# Altium schematic symbol library arthurbenemann-Atmel.SchLib: 651 symbols (part 24 of 28)
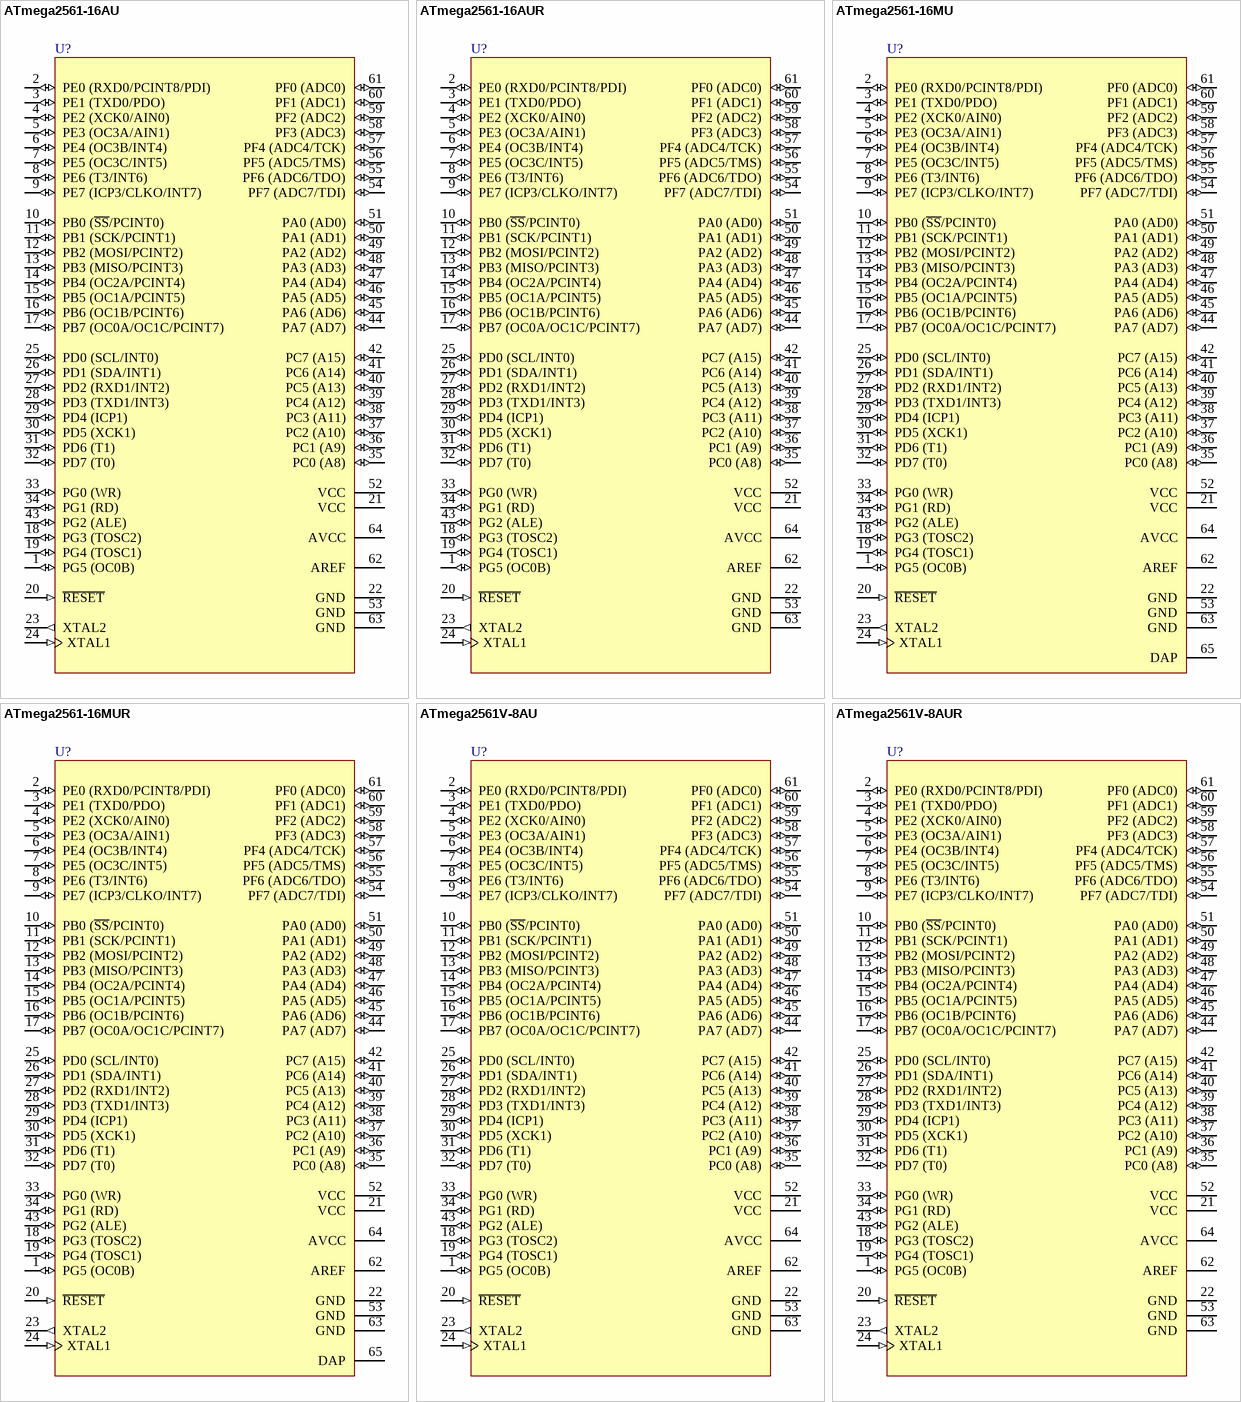
[diagram p109: symbols ATmega2561-16AU to ATmega2561V-8AUR]

## ATmega2561-16AUR
designator U?
8-bit AVR Microcontroller, 4.5-5.5V, 16MHz, 256KB Flash, 4KB EEPROM, 8KB SRAM, 54 GPIO pins, 64-pin TQFP, Industrial Grade (-40°C to 85°C), Pb-Free; DatasheetVersion: revN, May-2011; PackageVersion: revC, Oct-2010; PackageReference: 64A; PackageDescription: 64-Pin Plastic Thin Profile Quad Flat Pack, 14 x 14 x 1.0 mm Body, 0.8 mm Pitch (TQFP); Code_JEDEC: MS-026-AEB; ComponentLink1Description: Manufacturer URL; ComponentLink1URL: http://www.atmel.com/; ComponentLink2Description: ATmega640/1280/1281/2560/2561 Datasheet; ComponentLink2URL: http://www.atmel.com/dyn/resources/prod_documents/doc2549.pdf; ComponentLink3Description: ATmega640/1280/1281/2560/2561 Summary; ComponentLink3URL: http://www.atmel.com/dyn/resources/prod_documents/2549S.pdf
footprint 64A_N (Thin QFP, 64-Leads, Body 14x14mm, Pitch 0.8mm, IPC Medium Density)
footprint 64A_L (Thin QFP, 64-Leads, Body 14x14mm, Pitch 0.8mm, IPC High Density)
footprint 64A_M (Thin QFP, 64-Leads, Body 14x14mm, Pitch 0.8mm, IPC Low Density)
pins: 1 PG5 (OC0B) (io), 2 PE0 (RXD0/PCINT8/PDI) (io), 3 PE1 (TXD0/PDO) (io), 4 PE2 (XCK0/AIN0) (io), 5 PE3 (OC3A/AIN1) (io), 6 PE4 (OC3B/INT4) (io), 7 PE5 (OC3C/INT5) (io), 8 PE6 (T3/INT6) (io), 9 PE7 (ICP3/CLKO/INT7) (io), 10 PB0 (~{SS}/PCINT0) (io), 11 PB1 (SCK/PCINT1) (io), 12 PB2 (MOSI/PCINT2) (io), 13 PB3 (MISO/PCINT3) (io), 14 PB4 (OC2A/PCINT4) (io), 15 PB5 (OC1A/PCINT5) (io), 16 PB6 (OC1B/PCINT6) (io), 17 PB7 (OC0A/OC1C/PCINT7) (io), 18 PG3 (TOSC2) (io), 19 PG4 (TOSC1) (io), 20 ~{RESET} (in), 21 VCC (power), 22 GND (power), 23 XTAL2 (out), 24 XTAL1 (in), 25 PD0 (SCL/INT0) (io), 26 PD1 (SDA/INT1) (io), 27 PD2 (RXD1/INT2) (io), 28 PD3 (TXD1/INT3) (io), 29 PD4 (ICP1) (io), 30 PD5 (XCK1) (io), 31 PD6 (T1) (io), 32 PD7 (T0) (io), 33 PG0 (WR) (io), 34 PG1 (RD) (io), 35 PC0 (A8) (io), 36 PC1 (A9) (io), 37 PC2 (A10) (io), 38 PC3 (A11) (io), 39 PC4 (A12) (io), 40 PC5 (A13) (io), 41 PC6 (A14) (io), 42 PC7 (A15) (io), 43 PG2 (ALE) (io), 44 PA7 (AD7) (io), 45 PA6 (AD6) (io), 46 PA5 (AD5) (io), 47 PA4 (AD4) (io), 48 PA3 (AD3) (io), 49 PA2 (AD2) (io), 50 PA1 (AD1) (io), 51 PA0 (AD0) (io), 52 VCC (power), 53 GND (power), 54 PF7 (ADC7/TDI) (io), 55 PF6 (ADC6/TDO) (io), 56 PF5 (ADC5/TMS) (io), 57 PF4 (ADC4/TCK) (io), 58 PF3 (ADC3) (io), 59 PF2 (ADC2) (io), 60 PF1 (ADC1) (io), 61 PF0 (ADC0) (io), 62 AREF (power), 63 GND (power), 64 AVCC (power)

## ATmega2561-16MU
designator U?
8-bit AVR Microcontroller, 4.5-5.5V, 16MHz, 256KB Flash, 4KB EEPROM, 8KB SRAM, 54 GPIO pins, 64-pin MLF, Industrial Grade (-40°C to 85°C), Pb-Free, Reel; DatasheetVersion: revN, May-2011; PackageVersion: revE, Oct-2010; PackageReference: 64M2; PackageDescription: 64-Pin Micro Lead Frame Package (MLF), 9 x 9 x 1.0 mm Body, 0.5 mm Pitch, 7.65 mm Exposed Pad; Code_JEDEC: MO-220VMMD; ComponentLink1Description: Manufacturer URL; ComponentLink1URL: http://www.atmel.com/; ComponentLink2Description: ATmega640/1280/1281/2560/2561 Datasheet; ComponentLink2URL: http://www.atmel.com/dyn/resources/prod_documents/doc2549.pdf; ComponentLink3Description: ATmega640/1280/1281/2560/2561 Summary; ComponentLink3URL: http://www.atmel.com/dyn/resources/prod_documents/2549S.pdf
footprint 64M2_N (QFN, 64-Leads, Body 9x9mm, Pitch 0.5mm, Thermal Pad 7.8x7.8mm, IPC Medium Density)
footprint 64M2_L (QFN, 64-Leads, Body 9x9mm, Pitch 0.5mm, Thermal Pad 7.8x7.8mm, IPC High Density)
footprint 64M2_M (QFN, 64-Leads, Body 9x9mm, Pitch 0.5mm, Thermal Pad 7.8x7.8mm, IPC Low Density)
pins: 1 PG5 (OC0B) (io), 2 PE0 (RXD0/PCINT8/PDI) (io), 3 PE1 (TXD0/PDO) (io), 4 PE2 (XCK0/AIN0) (io), 5 PE3 (OC3A/AIN1) (io), 6 PE4 (OC3B/INT4) (io), 7 PE5 (OC3C/INT5) (io), 8 PE6 (T3/INT6) (io), 9 PE7 (ICP3/CLKO/INT7) (io), 10 PB0 (~{SS}/PCINT0) (io), 11 PB1 (SCK/PCINT1) (io), 12 PB2 (MOSI/PCINT2) (io), 13 PB3 (MISO/PCINT3) (io), 14 PB4 (OC2A/PCINT4) (io), 15 PB5 (OC1A/PCINT5) (io), 16 PB6 (OC1B/PCINT6) (io), 17 PB7 (OC0A/OC1C/PCINT7) (io), 18 PG3 (TOSC2) (io), 19 PG4 (TOSC1) (io), 20 ~{RESET} (in), 21 VCC (power), 22 GND (power), 23 XTAL2 (out), 24 XTAL1 (in), 25 PD0 (SCL/INT0) (io), 26 PD1 (SDA/INT1) (io), 27 PD2 (RXD1/INT2) (io), 28 PD3 (TXD1/INT3) (io), 29 PD4 (ICP1) (io), 30 PD5 (XCK1) (io), 31 PD6 (T1) (io), 32 PD7 (T0) (io), 33 PG0 (WR) (io), 34 PG1 (RD) (io), 35 PC0 (A8) (io), 36 PC1 (A9) (io), 37 PC2 (A10) (io), 38 PC3 (A11) (io), 39 PC4 (A12) (io), 40 PC5 (A13) (io), 41 PC6 (A14) (io), 42 PC7 (A15) (io), 43 PG2 (ALE) (io), 44 PA7 (AD7) (io), 45 PA6 (AD6) (io), 46 PA5 (AD5) (io), 47 PA4 (AD4) (io), 48 PA3 (AD3) (io), 49 PA2 (AD2) (io), 50 PA1 (AD1) (io), 51 PA0 (AD0) (io), 52 VCC (power), 53 GND (power), 54 PF7 (ADC7/TDI) (io), 55 PF6 (ADC6/TDO) (io), 56 PF5 (ADC5/TMS) (io), 57 PF4 (ADC4/TCK) (io), 58 PF3 (ADC3) (io), 59 PF2 (ADC2) (io), 60 PF1 (ADC1) (io), 61 PF0 (ADC0) (io), 62 AREF (power), 63 GND (power), 64 AVCC (power), 65 DAP (power)

## ATmega2561-16MUR
designator U?
8-bit AVR Microcontroller, 4.5-5.5V, 16MHz, 256KB Flash, 4KB EEPROM, 8KB SRAM, 54 GPIO pins, 64-pin MLF, Industrial Grade (-40°C to 85°C), Pb-Free, Reel; DatasheetVersion: revN, May-2011; PackageVersion: revE, Oct-2010; PackageReference: 64M2; PackageDescription: 64-Pin Micro Lead Frame Package (MLF), 9 x 9 x 1.0 mm Body, 0.5 mm Pitch, 7.65 mm Exposed Pad; Code_JEDEC: MO-220VMMD; ComponentLink1Description: Manufacturer URL; ComponentLink1URL: http://www.atmel.com/; ComponentLink2Description: ATmega640/1280/1281/2560/2561 Datasheet; ComponentLink2URL: http://www.atmel.com/dyn/resources/prod_documents/doc2549.pdf; ComponentLink3Description: ATmega640/1280/1281/2560/2561 Summary; ComponentLink3URL: http://www.atmel.com/dyn/resources/prod_documents/2549S.pdf
footprint 64M2_N (QFN, 64-Leads, Body 9x9mm, Pitch 0.5mm, Thermal Pad 7.8x7.8mm, IPC Medium Density)
footprint 64M2_L (QFN, 64-Leads, Body 9x9mm, Pitch 0.5mm, Thermal Pad 7.8x7.8mm, IPC High Density)
footprint 64M2_M (QFN, 64-Leads, Body 9x9mm, Pitch 0.5mm, Thermal Pad 7.8x7.8mm, IPC Low Density)
pins: 1 PG5 (OC0B) (io), 2 PE0 (RXD0/PCINT8/PDI) (io), 3 PE1 (TXD0/PDO) (io), 4 PE2 (XCK0/AIN0) (io), 5 PE3 (OC3A/AIN1) (io), 6 PE4 (OC3B/INT4) (io), 7 PE5 (OC3C/INT5) (io), 8 PE6 (T3/INT6) (io), 9 PE7 (ICP3/CLKO/INT7) (io), 10 PB0 (~{SS}/PCINT0) (io), 11 PB1 (SCK/PCINT1) (io), 12 PB2 (MOSI/PCINT2) (io), 13 PB3 (MISO/PCINT3) (io), 14 PB4 (OC2A/PCINT4) (io), 15 PB5 (OC1A/PCINT5) (io), 16 PB6 (OC1B/PCINT6) (io), 17 PB7 (OC0A/OC1C/PCINT7) (io), 18 PG3 (TOSC2) (io), 19 PG4 (TOSC1) (io), 20 ~{RESET} (in), 21 VCC (power), 22 GND (power), 23 XTAL2 (out), 24 XTAL1 (in), 25 PD0 (SCL/INT0) (io), 26 PD1 (SDA/INT1) (io), 27 PD2 (RXD1/INT2) (io), 28 PD3 (TXD1/INT3) (io), 29 PD4 (ICP1) (io), 30 PD5 (XCK1) (io), 31 PD6 (T1) (io), 32 PD7 (T0) (io), 33 PG0 (WR) (io), 34 PG1 (RD) (io), 35 PC0 (A8) (io), 36 PC1 (A9) (io), 37 PC2 (A10) (io), 38 PC3 (A11) (io), 39 PC4 (A12) (io), 40 PC5 (A13) (io), 41 PC6 (A14) (io), 42 PC7 (A15) (io), 43 PG2 (ALE) (io), 44 PA7 (AD7) (io), 45 PA6 (AD6) (io), 46 PA5 (AD5) (io), 47 PA4 (AD4) (io), 48 PA3 (AD3) (io), 49 PA2 (AD2) (io), 50 PA1 (AD1) (io), 51 PA0 (AD0) (io), 52 VCC (power), 53 GND (power), 54 PF7 (ADC7/TDI) (io), 55 PF6 (ADC6/TDO) (io), 56 PF5 (ADC5/TMS) (io), 57 PF4 (ADC4/TCK) (io), 58 PF3 (ADC3) (io), 59 PF2 (ADC2) (io), 60 PF1 (ADC1) (io), 61 PF0 (ADC0) (io), 62 AREF (power), 63 GND (power), 64 AVCC (power), 65 DAP (power)

## ATmega2561V-8AU
designator U?
8-bit AVR Microcontroller, 1.8-5.5V, 2MHz, 256KB Flash, 4KB EEPROM, 8KB SRAM, 54 GPIO pins, 64-pin TQFP, Industrial Grade (-40°C to 85°C), Pb-Free; DatasheetVersion: revN, May-2011; PackageVersion: revC, Oct-2010; PackageReference: 64A; PackageDescription: 64-Pin Plastic Thin Profile Quad Flat Pack, 14 x 14 x 1.0 mm Body, 0.8 mm Pitch (TQFP); Code_JEDEC: MS-026-AEB; ComponentLink1Description: Manufacturer URL; ComponentLink1URL: http://www.atmel.com/; ComponentLink2Description: ATmega640/1280/1281/2560/2561 Datasheet; ComponentLink2URL: http://www.atmel.com/dyn/resources/prod_documents/doc2549.pdf; ComponentLink3Description: ATmega640/1280/1281/2560/2561 Summary; ComponentLink3URL: http://www.atmel.com/dyn/resources/prod_documents/2549S.pdf
footprint 64A_N (Thin QFP, 64-Leads, Body 14x14mm, Pitch 0.8mm, IPC Medium Density)
footprint 64A_L (Thin QFP, 64-Leads, Body 14x14mm, Pitch 0.8mm, IPC High Density)
footprint 64A_M (Thin QFP, 64-Leads, Body 14x14mm, Pitch 0.8mm, IPC Low Density)
pins: 1 PG5 (OC0B) (io), 2 PE0 (RXD0/PCINT8/PDI) (io), 3 PE1 (TXD0/PDO) (io), 4 PE2 (XCK0/AIN0) (io), 5 PE3 (OC3A/AIN1) (io), 6 PE4 (OC3B/INT4) (io), 7 PE5 (OC3C/INT5) (io), 8 PE6 (T3/INT6) (io), 9 PE7 (ICP3/CLKO/INT7) (io), 10 PB0 (~{SS}/PCINT0) (io), 11 PB1 (SCK/PCINT1) (io), 12 PB2 (MOSI/PCINT2) (io), 13 PB3 (MISO/PCINT3) (io), 14 PB4 (OC2A/PCINT4) (io), 15 PB5 (OC1A/PCINT5) (io), 16 PB6 (OC1B/PCINT6) (io), 17 PB7 (OC0A/OC1C/PCINT7) (io), 18 PG3 (TOSC2) (io), 19 PG4 (TOSC1) (io), 20 ~{RESET} (in), 21 VCC (power), 22 GND (power), 23 XTAL2 (out), 24 XTAL1 (in), 25 PD0 (SCL/INT0) (io), 26 PD1 (SDA/INT1) (io), 27 PD2 (RXD1/INT2) (io), 28 PD3 (TXD1/INT3) (io), 29 PD4 (ICP1) (io), 30 PD5 (XCK1) (io), 31 PD6 (T1) (io), 32 PD7 (T0) (io), 33 PG0 (WR) (io), 34 PG1 (RD) (io), 35 PC0 (A8) (io), 36 PC1 (A9) (io), 37 PC2 (A10) (io), 38 PC3 (A11) (io), 39 PC4 (A12) (io), 40 PC5 (A13) (io), 41 PC6 (A14) (io), 42 PC7 (A15) (io), 43 PG2 (ALE) (io), 44 PA7 (AD7) (io), 45 PA6 (AD6) (io), 46 PA5 (AD5) (io), 47 PA4 (AD4) (io), 48 PA3 (AD3) (io), 49 PA2 (AD2) (io), 50 PA1 (AD1) (io), 51 PA0 (AD0) (io), 52 VCC (power), 53 GND (power), 54 PF7 (ADC7/TDI) (io), 55 PF6 (ADC6/TDO) (io), 56 PF5 (ADC5/TMS) (io), 57 PF4 (ADC4/TCK) (io), 58 PF3 (ADC3) (io), 59 PF2 (ADC2) (io), 60 PF1 (ADC1) (io), 61 PF0 (ADC0) (io), 62 AREF (power), 63 GND (power), 64 AVCC (power)

## ATmega2561V-8AUR
designator U?
8-bit AVR Microcontroller, 1.8-5.5V, 2MHz, 256KB Flash, 4KB EEPROM, 8KB SRAM, 54 GPIO pins, 64-pin TQFP, Industrial Grade (-40°C to 85°C), Pb-Free; DatasheetVersion: revN, May-2011; PackageVersion: revC, Oct-2010; PackageReference: 64A; PackageDescription: 64-Pin Plastic Thin Profile Quad Flat Pack, 14 x 14 x 1.0 mm Body, 0.8 mm Pitch (TQFP); Code_JEDEC: MS-026-AEB; ComponentLink1Description: Manufacturer URL; ComponentLink1URL: http://www.atmel.com/; ComponentLink2Description: ATmega640/1280/1281/2560/2561 Datasheet; ComponentLink2URL: http://www.atmel.com/dyn/resources/prod_documents/doc2549.pdf; ComponentLink3Description: ATmega640/1280/1281/2560/2561 Summary; ComponentLink3URL: http://www.atmel.com/dyn/resources/prod_documents/2549S.pdf
footprint 64A_N (Thin QFP, 64-Leads, Body 14x14mm, Pitch 0.8mm, IPC Medium Density)
footprint 64A_L (Thin QFP, 64-Leads, Body 14x14mm, Pitch 0.8mm, IPC High Density)
footprint 64A_M (Thin QFP, 64-Leads, Body 14x14mm, Pitch 0.8mm, IPC Low Density)
pins: 1 PG5 (OC0B) (io), 2 PE0 (RXD0/PCINT8/PDI) (io), 3 PE1 (TXD0/PDO) (io), 4 PE2 (XCK0/AIN0) (io), 5 PE3 (OC3A/AIN1) (io), 6 PE4 (OC3B/INT4) (io), 7 PE5 (OC3C/INT5) (io), 8 PE6 (T3/INT6) (io), 9 PE7 (ICP3/CLKO/INT7) (io), 10 PB0 (~{SS}/PCINT0) (io), 11 PB1 (SCK/PCINT1) (io), 12 PB2 (MOSI/PCINT2) (io), 13 PB3 (MISO/PCINT3) (io), 14 PB4 (OC2A/PCINT4) (io), 15 PB5 (OC1A/PCINT5) (io), 16 PB6 (OC1B/PCINT6) (io), 17 PB7 (OC0A/OC1C/PCINT7) (io), 18 PG3 (TOSC2) (io), 19 PG4 (TOSC1) (io), 20 ~{RESET} (in), 21 VCC (power), 22 GND (power), 23 XTAL2 (out), 24 XTAL1 (in), 25 PD0 (SCL/INT0) (io), 26 PD1 (SDA/INT1) (io), 27 PD2 (RXD1/INT2) (io), 28 PD3 (TXD1/INT3) (io), 29 PD4 (ICP1) (io), 30 PD5 (XCK1) (io), 31 PD6 (T1) (io), 32 PD7 (T0) (io), 33 PG0 (WR) (io), 34 PG1 (RD) (io), 35 PC0 (A8) (io), 36 PC1 (A9) (io), 37 PC2 (A10) (io), 38 PC3 (A11) (io), 39 PC4 (A12) (io), 40 PC5 (A13) (io), 41 PC6 (A14) (io), 42 PC7 (A15) (io), 43 PG2 (ALE) (io), 44 PA7 (AD7) (io), 45 PA6 (AD6) (io), 46 PA5 (AD5) (io), 47 PA4 (AD4) (io), 48 PA3 (AD3) (io), 49 PA2 (AD2) (io), 50 PA1 (AD1) (io), 51 PA0 (AD0) (io), 52 VCC (power), 53 GND (power), 54 PF7 (ADC7/TDI) (io), 55 PF6 (ADC6/TDO) (io), 56 PF5 (ADC5/TMS) (io), 57 PF4 (ADC4/TCK) (io), 58 PF3 (ADC3) (io), 59 PF2 (ADC2) (io), 60 PF1 (ADC1) (io), 61 PF0 (ADC0) (io), 62 AREF (power), 63 GND (power), 64 AVCC (power)

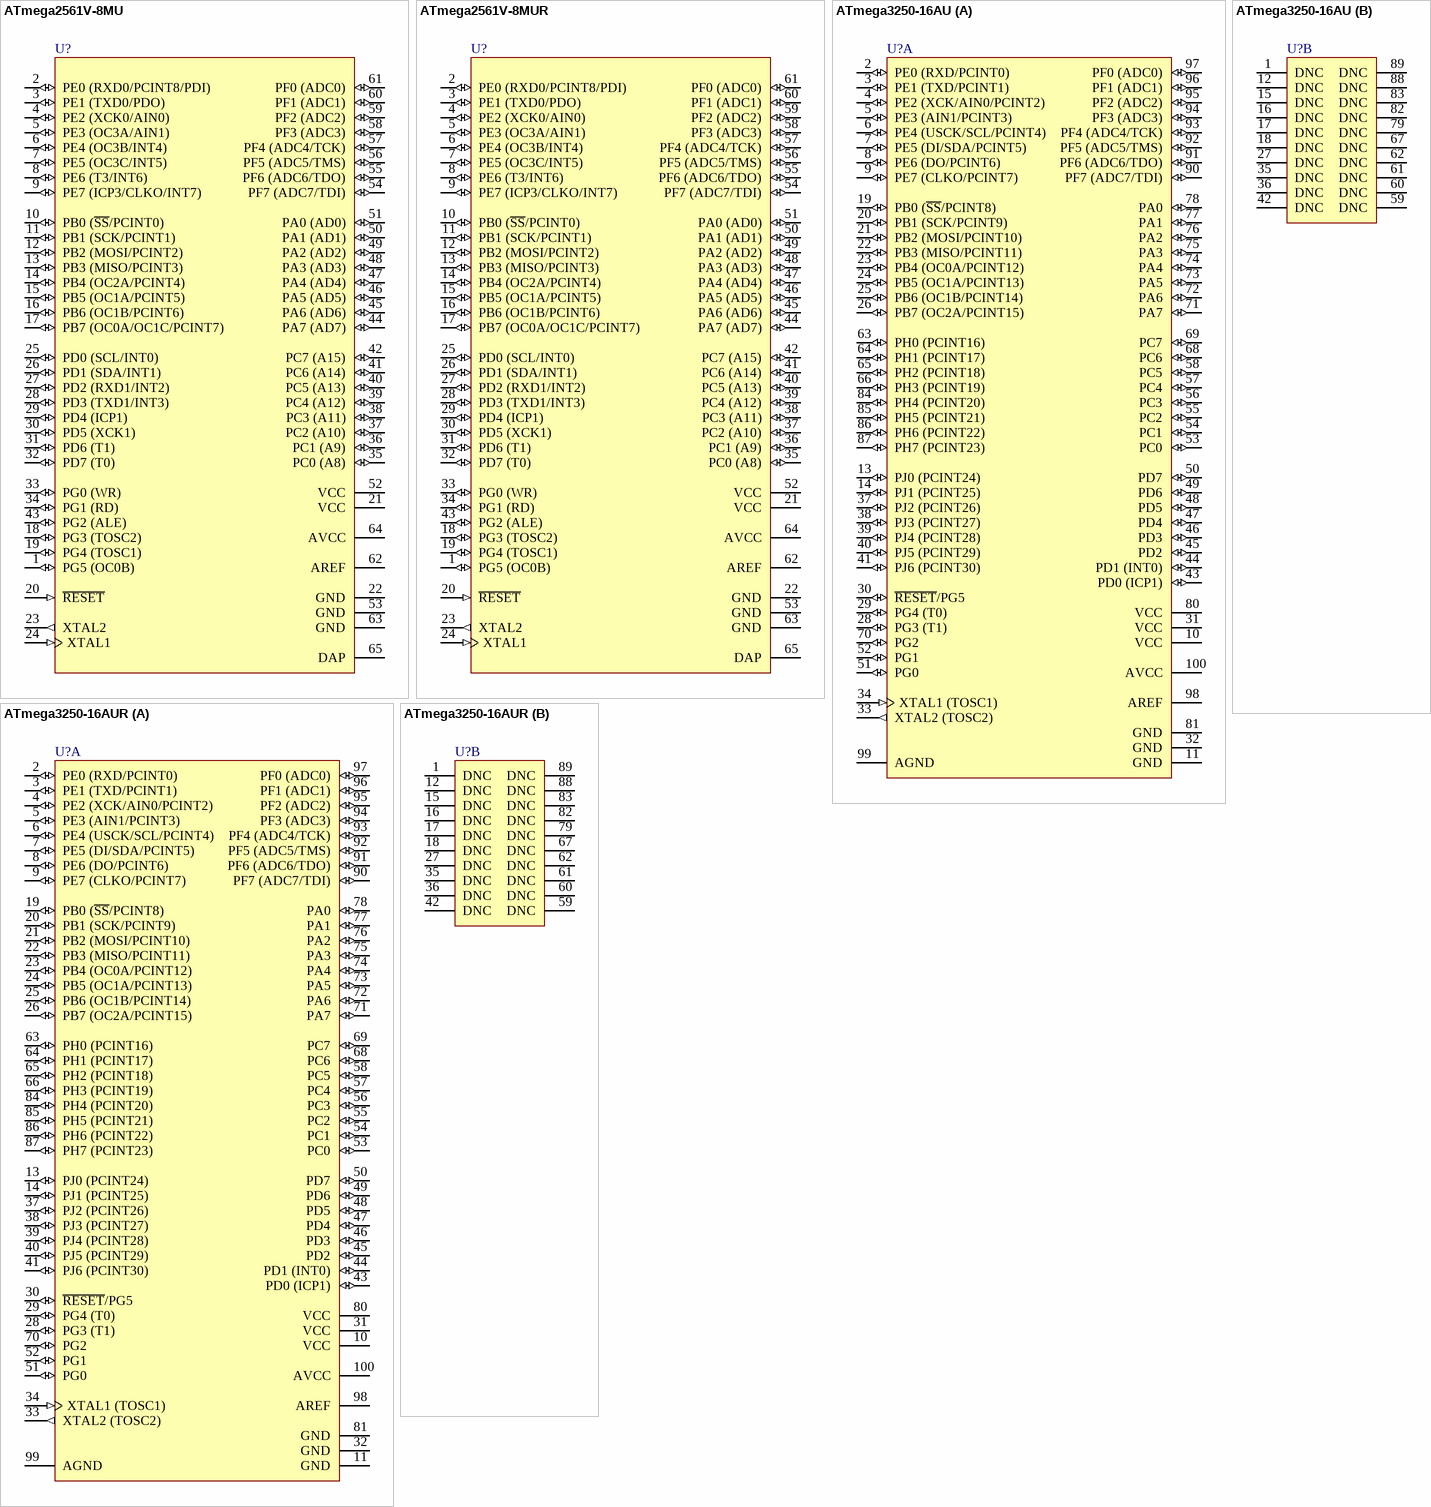
[diagram p68: symbols ATmega2561V-8MU to ATmega3250-16AUR]

## ATmega2561V-8MU
designator U?
8-bit AVR Microcontroller, 1.8-5.5V, 2MHz, 256KB Flash, 4KB EEPROM, 8KB SRAM, 54 GPIO pins, 64-pin MLF, Industrial Grade (-40°C to 85°C), Pb-Free, Reel; DatasheetVersion: revN, May-2011; PackageVersion: revE, Oct-2010; PackageReference: 64M2; PackageDescription: 64-Pin Micro Lead Frame Package (MLF), 9 x 9 x 1.0 mm Body, 0.5 mm Pitch, 7.65 mm Exposed Pad; Code_JEDEC: MO-220VMMD; ComponentLink1Description: Manufacturer URL; ComponentLink1URL: http://www.atmel.com/; ComponentLink2Description: ATmega640/1280/1281/2560/2561 Datasheet; ComponentLink2URL: http://www.atmel.com/dyn/resources/prod_documents/doc2549.pdf; ComponentLink3Description: ATmega640/1280/1281/2560/2561 Summary; ComponentLink3URL: http://www.atmel.com/dyn/resources/prod_documents/2549S.pdf
footprint 64M2_N (QFN, 64-Leads, Body 9x9mm, Pitch 0.5mm, Thermal Pad 7.8x7.8mm, IPC Medium Density)
footprint 64M2_L (QFN, 64-Leads, Body 9x9mm, Pitch 0.5mm, Thermal Pad 7.8x7.8mm, IPC High Density)
footprint 64M2_M (QFN, 64-Leads, Body 9x9mm, Pitch 0.5mm, Thermal Pad 7.8x7.8mm, IPC Low Density)
pins: 1 PG5 (OC0B) (io), 2 PE0 (RXD0/PCINT8/PDI) (io), 3 PE1 (TXD0/PDO) (io), 4 PE2 (XCK0/AIN0) (io), 5 PE3 (OC3A/AIN1) (io), 6 PE4 (OC3B/INT4) (io), 7 PE5 (OC3C/INT5) (io), 8 PE6 (T3/INT6) (io), 9 PE7 (ICP3/CLKO/INT7) (io), 10 PB0 (~{SS}/PCINT0) (io), 11 PB1 (SCK/PCINT1) (io), 12 PB2 (MOSI/PCINT2) (io), 13 PB3 (MISO/PCINT3) (io), 14 PB4 (OC2A/PCINT4) (io), 15 PB5 (OC1A/PCINT5) (io), 16 PB6 (OC1B/PCINT6) (io), 17 PB7 (OC0A/OC1C/PCINT7) (io), 18 PG3 (TOSC2) (io), 19 PG4 (TOSC1) (io), 20 ~{RESET} (in), 21 VCC (power), 22 GND (power), 23 XTAL2 (out), 24 XTAL1 (in), 25 PD0 (SCL/INT0) (io), 26 PD1 (SDA/INT1) (io), 27 PD2 (RXD1/INT2) (io), 28 PD3 (TXD1/INT3) (io), 29 PD4 (ICP1) (io), 30 PD5 (XCK1) (io), 31 PD6 (T1) (io), 32 PD7 (T0) (io), 33 PG0 (WR) (io), 34 PG1 (RD) (io), 35 PC0 (A8) (io), 36 PC1 (A9) (io), 37 PC2 (A10) (io), 38 PC3 (A11) (io), 39 PC4 (A12) (io), 40 PC5 (A13) (io), 41 PC6 (A14) (io), 42 PC7 (A15) (io), 43 PG2 (ALE) (io), 44 PA7 (AD7) (io), 45 PA6 (AD6) (io), 46 PA5 (AD5) (io), 47 PA4 (AD4) (io), 48 PA3 (AD3) (io), 49 PA2 (AD2) (io), 50 PA1 (AD1) (io), 51 PA0 (AD0) (io), 52 VCC (power), 53 GND (power), 54 PF7 (ADC7/TDI) (io), 55 PF6 (ADC6/TDO) (io), 56 PF5 (ADC5/TMS) (io), 57 PF4 (ADC4/TCK) (io), 58 PF3 (ADC3) (io), 59 PF2 (ADC2) (io), 60 PF1 (ADC1) (io), 61 PF0 (ADC0) (io), 62 AREF (power), 63 GND (power), 64 AVCC (power), 65 DAP (power)

## ATmega2561V-8MUR
designator U?
8-bit AVR Microcontroller, 1.8-5.5V, 2MHz, 256KB Flash, 4KB EEPROM, 8KB SRAM, 54 GPIO pins, 64-pin MLF, Industrial Grade (-40°C to 85°C), Pb-Free, Reel; DatasheetVersion: revN, May-2011; PackageVersion: revE, Oct-2010; PackageReference: 64M2; PackageDescription: 64-Pin Micro Lead Frame Package (MLF), 9 x 9 x 1.0 mm Body, 0.5 mm Pitch, 7.65 mm Exposed Pad; Code_JEDEC: MO-220VMMD; ComponentLink1Description: Manufacturer URL; ComponentLink1URL: http://www.atmel.com/; ComponentLink2Description: ATmega640/1280/1281/2560/2561 Datasheet; ComponentLink2URL: http://www.atmel.com/dyn/resources/prod_documents/doc2549.pdf; ComponentLink3Description: ATmega640/1280/1281/2560/2561 Summary; ComponentLink3URL: http://www.atmel.com/dyn/resources/prod_documents/2549S.pdf
footprint 64M2_N (QFN, 64-Leads, Body 9x9mm, Pitch 0.5mm, Thermal Pad 7.8x7.8mm, IPC Medium Density)
footprint 64M2_L (QFN, 64-Leads, Body 9x9mm, Pitch 0.5mm, Thermal Pad 7.8x7.8mm, IPC High Density)
footprint 64M2_M (QFN, 64-Leads, Body 9x9mm, Pitch 0.5mm, Thermal Pad 7.8x7.8mm, IPC Low Density)
pins: 1 PG5 (OC0B) (io), 2 PE0 (RXD0/PCINT8/PDI) (io), 3 PE1 (TXD0/PDO) (io), 4 PE2 (XCK0/AIN0) (io), 5 PE3 (OC3A/AIN1) (io), 6 PE4 (OC3B/INT4) (io), 7 PE5 (OC3C/INT5) (io), 8 PE6 (T3/INT6) (io), 9 PE7 (ICP3/CLKO/INT7) (io), 10 PB0 (~{SS}/PCINT0) (io), 11 PB1 (SCK/PCINT1) (io), 12 PB2 (MOSI/PCINT2) (io), 13 PB3 (MISO/PCINT3) (io), 14 PB4 (OC2A/PCINT4) (io), 15 PB5 (OC1A/PCINT5) (io), 16 PB6 (OC1B/PCINT6) (io), 17 PB7 (OC0A/OC1C/PCINT7) (io), 18 PG3 (TOSC2) (io), 19 PG4 (TOSC1) (io), 20 ~{RESET} (in), 21 VCC (power), 22 GND (power), 23 XTAL2 (out), 24 XTAL1 (in), 25 PD0 (SCL/INT0) (io), 26 PD1 (SDA/INT1) (io), 27 PD2 (RXD1/INT2) (io), 28 PD3 (TXD1/INT3) (io), 29 PD4 (ICP1) (io), 30 PD5 (XCK1) (io), 31 PD6 (T1) (io), 32 PD7 (T0) (io), 33 PG0 (WR) (io), 34 PG1 (RD) (io), 35 PC0 (A8) (io), 36 PC1 (A9) (io), 37 PC2 (A10) (io), 38 PC3 (A11) (io), 39 PC4 (A12) (io), 40 PC5 (A13) (io), 41 PC6 (A14) (io), 42 PC7 (A15) (io), 43 PG2 (ALE) (io), 44 PA7 (AD7) (io), 45 PA6 (AD6) (io), 46 PA5 (AD5) (io), 47 PA4 (AD4) (io), 48 PA3 (AD3) (io), 49 PA2 (AD2) (io), 50 PA1 (AD1) (io), 51 PA0 (AD0) (io), 52 VCC (power), 53 GND (power), 54 PF7 (ADC7/TDI) (io), 55 PF6 (ADC6/TDO) (io), 56 PF5 (ADC5/TMS) (io), 57 PF4 (ADC4/TCK) (io), 58 PF3 (ADC3) (io), 59 PF2 (ADC2) (io), 60 PF1 (ADC1) (io), 61 PF0 (ADC0) (io), 62 AREF (power), 63 GND (power), 64 AVCC (power), 65 DAP (power)

## ATmega3250-16AU
designator U?
8-bit AVR Microcontroller, 2.7-5.5V, 32KB Flash, 1KB EEPROM, 2KB SRAM, 100-pin TQFP, Industrial Grade (-40°C to 85°C); DatasheetVersion: revN, May-2011; PackageVersion: revD, Oct-2010; PackageReference: 100A; PackageDescription: 100-Pin Thin Profile Plastic Quad Flat Pack (TQFP), 14 x 14 x 1.0 mm Body, 0.5 mm Pitch; Code_JEDEC: MS-026-AED; ComponentLink1Description: Manufacturer URL; ComponentLink1URL: http://www.atmel.com/; ComponentLink2Description: ATmega325/3250/645/6450 Datasheet; ComponentLink2URL: http://www.atmel.com/dyn/resources/prod_documents/doc2570.pdf; ComponentLink3Description: ATmega325/3250/645/6540 Summary; ComponentLink3URL: http://www.atmel.com/dyn/resources/prod_documents/2570S.pdf
footprint 100A_N (Thin QFP, 100-Leads, Body 14x14mm, Pitch 0.5mm, IPC Medium Density)
footprint 100A_L (Thin QFP, 100-Leads, Body 14x14mm, Pitch 0.5mm, IPC High Density)
footprint 100A_M (Thin QFP, 100-Leads, Body 14x14mm, Pitch 0.5mm, IPC Low Density)
part A pins: 2 PE0 (RXD/PCINT0) (io), 3 PE1 (TXD/PCINT1) (io), 4 PE2 (XCK/AIN0/PCINT2) (io), 5 PE3 (AIN1/PCINT3) (io), 6 PE4 (USCK/SCL/PCINT4) (io), 7 PE5 (DI/SDA/PCINT5) (io), 8 PE6 (DO/PCINT6) (io), 9 PE7 (CLKO/PCINT7) (io), 10 VCC (power), 11 GND (power), 13 PJ0 (PCINT24) (io), 14 PJ1 (PCINT25) (io), 19 PB0 (~{SS}/PCINT8) (io), 20 PB1 (SCK/PCINT9) (io), 21 PB2 (MOSI/PCINT10) (io), 22 PB3 (MISO/PCINT11) (io), 23 PB4 (OC0A/PCINT12) (io), 24 PB5 (OC1A/PCINT13) (io), 25 PB6 (OC1B/PCINT14) (io), 26 PB7 (OC2A/PCINT15) (io), 28 PG3 (T1) (io), 29 PG4 (T0) (io), 30 ~{RESET}/PG5 (io), 31 VCC (power), 32 GND (power), 33 XTAL2 (TOSC2) (out), 34 XTAL1 (TOSC1) (in), 37 PJ2 (PCINT26) (io), 38 PJ3 (PCINT27) (io), 39 PJ4 (PCINT28) (io), 40 PJ5 (PCINT29) (io), 41 PJ6 (PCINT30) (io), 43 PD0 (ICP1) (io), 44 PD1 (INT0) (io), 45 PD2 (io), 46 PD3 (io), 47 PD4 (io), 48 PD5 (io), 49 PD6 (io), 50 PD7 (io), 51 PG0 (io), 52 PG1 (io), 53 PC0 (io), 54 PC1 (io), 55 PC2 (io), 56 PC3 (io), 57 PC4 (io), 58 PC5 (io), 63 PH0 (PCINT16) (io), 64 PH1 (PCINT17) (io), 65 PH2 (PCINT18) (io), 66 PH3 (PCINT19) (io), 68 PC6 (io), 69 PC7 (io), 70 PG2 (io), 71 PA7 (io), 72 PA6 (io), 73 PA5 (io), 74 PA4 (io), 75 PA3 (io), 76 PA2 (io), 77 PA1 (io), 78 PA0 (io), 80 VCC (power), 81 GND (power), 84 PH4 (PCINT20) (io), 85 PH5 (PCINT21) (io), 86 PH6 (PCINT22) (io), 87 PH7 (PCINT23) (io), 90 PF7 (ADC7/TDI) (io), 91 PF6 (ADC6/TDO) (io), 92 PF5 (ADC5/TMS) (io), 93 PF4 (ADC4/TCK) (io), 94 PF3 (ADC3) (io), 95 PF2 (ADC2) (io), 96 PF1 (ADC1) (io), 97 PF0 (ADC0) (io), 98 AREF (power), 99 AGND (power), 100 AVCC (power)
part B pins: 1 DNC, 12 DNC, 15 DNC, 16 DNC, 17 DNC, 18 DNC, 27 DNC, 35 DNC, 36 DNC, 42 DNC, 59 DNC, 60 DNC, 61 DNC, 62 DNC, 67 DNC, 79 DNC, 82 DNC, 83 DNC, 88 DNC, 89 DNC

## ATmega3250-16AUR
designator U?
8-bit AVR Microcontroller, 2.7-5.5V, 32KB Flash, 1KB EEPROM, 2KB SRAM, 100-pin TQFP, Industrial Grade (-40°C to 85°C); DatasheetVersion: revN, May-2011; PackageVersion: revD, Oct-2010; PackageReference: 100A; PackageDescription: 100-Pin Thin Profile Plastic Quad Flat Pack (TQFP), 14 x 14 x 1.0 mm Body, 0.5 mm Pitch; Code_JEDEC: MS-026-AED; ComponentLink1Description: Manufacturer URL; ComponentLink1URL: http://www.atmel.com/; ComponentLink2Description: ATmega325/3250/645/6450 Datasheet; ComponentLink2URL: http://www.atmel.com/dyn/resources/prod_documents/doc2570.pdf; ComponentLink3Description: ATmega325/3250/645/6540 Summary; ComponentLink3URL: http://www.atmel.com/dyn/resources/prod_documents/2570S.pdf
footprint 100A_N (Thin QFP, 100-Leads, Body 14x14mm, Pitch 0.5mm, IPC Medium Density)
footprint 100A_L (Thin QFP, 100-Leads, Body 14x14mm, Pitch 0.5mm, IPC High Density)
footprint 100A_M (Thin QFP, 100-Leads, Body 14x14mm, Pitch 0.5mm, IPC Low Density)
part A pins: 2 PE0 (RXD/PCINT0) (io), 3 PE1 (TXD/PCINT1) (io), 4 PE2 (XCK/AIN0/PCINT2) (io), 5 PE3 (AIN1/PCINT3) (io), 6 PE4 (USCK/SCL/PCINT4) (io), 7 PE5 (DI/SDA/PCINT5) (io), 8 PE6 (DO/PCINT6) (io), 9 PE7 (CLKO/PCINT7) (io), 10 VCC (power), 11 GND (power), 13 PJ0 (PCINT24) (io), 14 PJ1 (PCINT25) (io), 19 PB0 (~{SS}/PCINT8) (io), 20 PB1 (SCK/PCINT9) (io), 21 PB2 (MOSI/PCINT10) (io), 22 PB3 (MISO/PCINT11) (io), 23 PB4 (OC0A/PCINT12) (io), 24 PB5 (OC1A/PCINT13) (io), 25 PB6 (OC1B/PCINT14) (io), 26 PB7 (OC2A/PCINT15) (io), 28 PG3 (T1) (io), 29 PG4 (T0) (io), 30 ~{RESET}/PG5 (io), 31 VCC (power), 32 GND (power), 33 XTAL2 (TOSC2) (out), 34 XTAL1 (TOSC1) (in), 37 PJ2 (PCINT26) (io), 38 PJ3 (PCINT27) (io), 39 PJ4 (PCINT28) (io), 40 PJ5 (PCINT29) (io), 41 PJ6 (PCINT30) (io), 43 PD0 (ICP1) (io), 44 PD1 (INT0) (io), 45 PD2 (io), 46 PD3 (io), 47 PD4 (io), 48 PD5 (io), 49 PD6 (io), 50 PD7 (io), 51 PG0 (io), 52 PG1 (io), 53 PC0 (io), 54 PC1 (io), 55 PC2 (io), 56 PC3 (io), 57 PC4 (io), 58 PC5 (io), 63 PH0 (PCINT16) (io), 64 PH1 (PCINT17) (io), 65 PH2 (PCINT18) (io), 66 PH3 (PCINT19) (io), 68 PC6 (io), 69 PC7 (io), 70 PG2 (io), 71 PA7 (io), 72 PA6 (io), 73 PA5 (io), 74 PA4 (io), 75 PA3 (io), 76 PA2 (io), 77 PA1 (io), 78 PA0 (io), 80 VCC (power), 81 GND (power), 84 PH4 (PCINT20) (io), 85 PH5 (PCINT21) (io), 86 PH6 (PCINT22) (io), 87 PH7 (PCINT23) (io), 90 PF7 (ADC7/TDI) (io), 91 PF6 (ADC6/TDO) (io), 92 PF5 (ADC5/TMS) (io), 93 PF4 (ADC4/TCK) (io), 94 PF3 (ADC3) (io), 95 PF2 (ADC2) (io), 96 PF1 (ADC1) (io), 97 PF0 (ADC0) (io), 98 AREF (power), 99 AGND (power), 100 AVCC (power)
part B pins: 1 DNC, 12 DNC, 15 DNC, 16 DNC, 17 DNC, 18 DNC, 27 DNC, 35 DNC, 36 DNC, 42 DNC, 59 DNC, 60 DNC, 61 DNC, 62 DNC, 67 DNC, 79 DNC, 82 DNC, 83 DNC, 88 DNC, 89 DNC

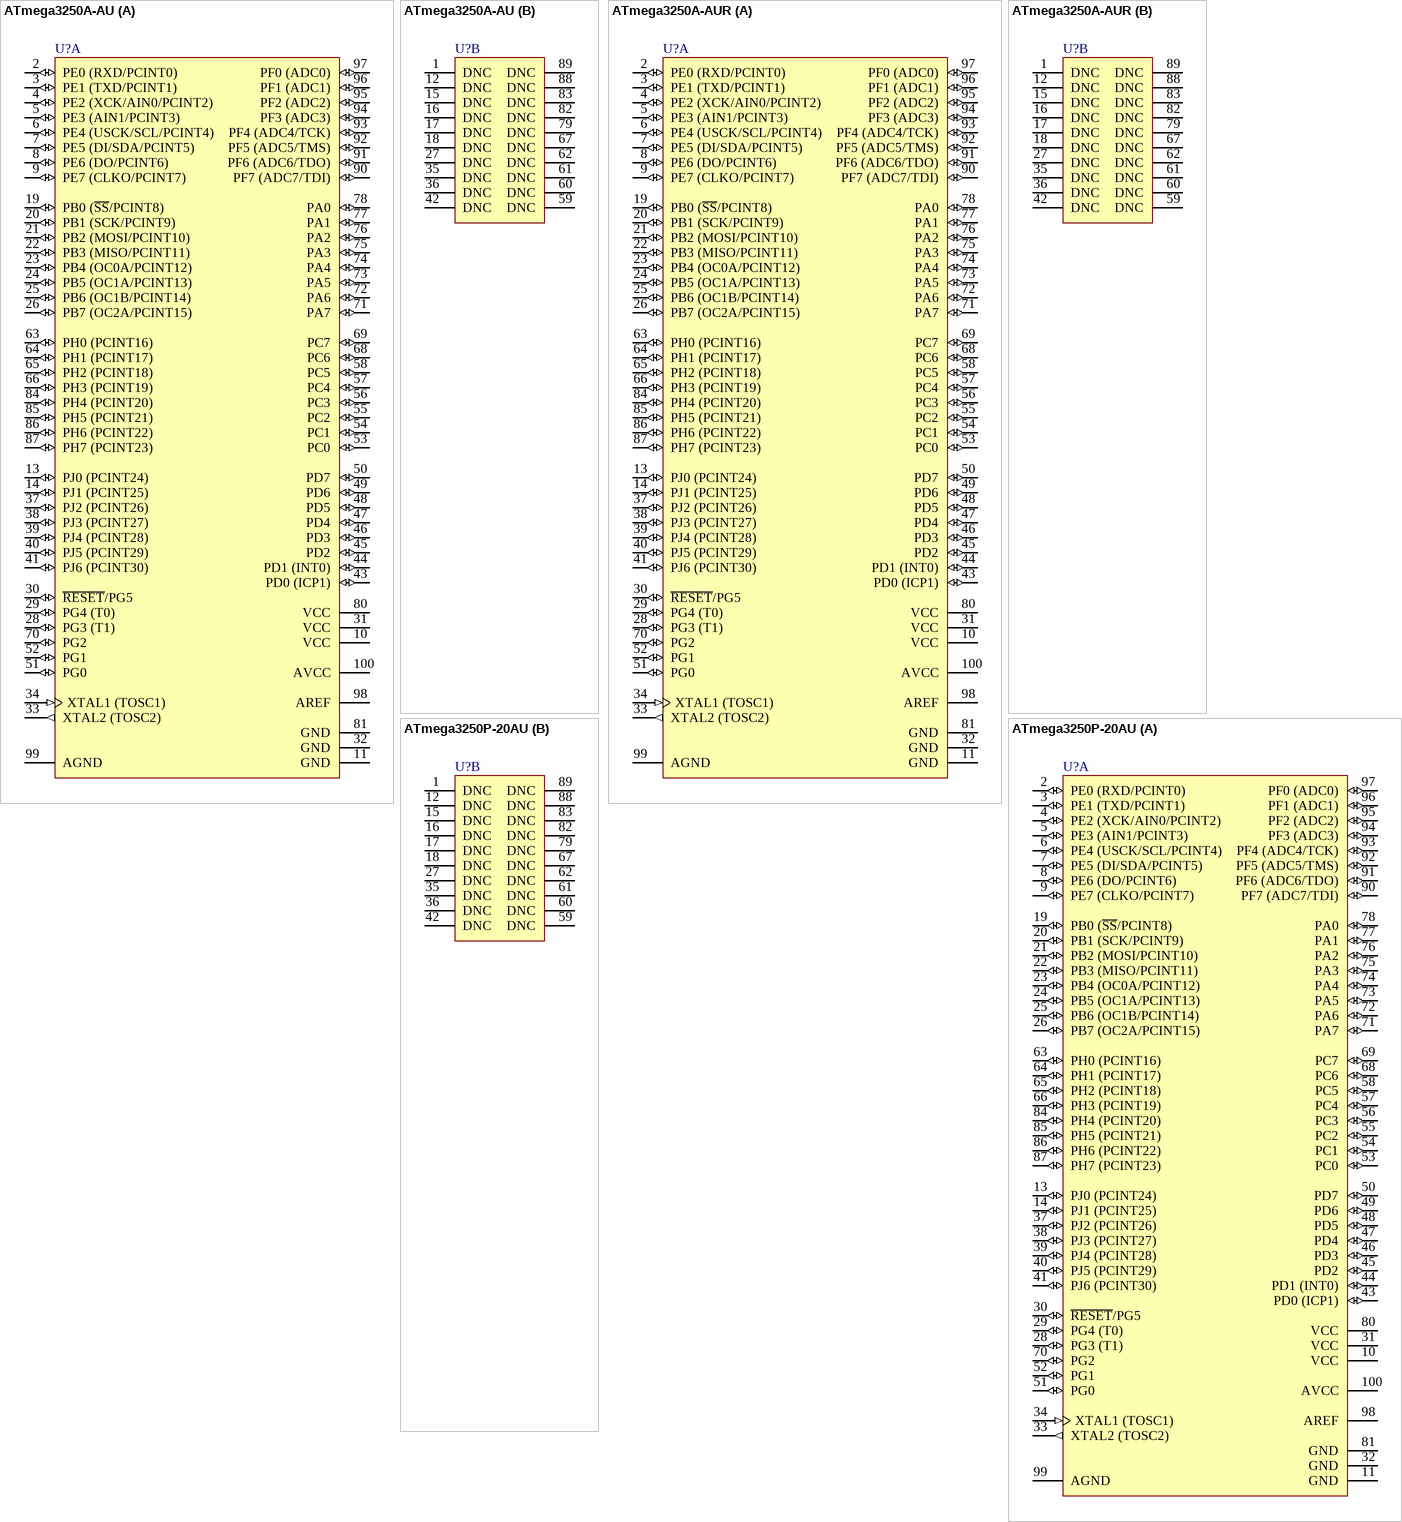
[diagram p69: symbols ATmega3250A-AU to ATmega3250P-20AU]

## ATmega3250A-AU
designator U?
8-bit AVR Microcontroller, 1.5-5.5V, 32KB Flash, 1KB EEPROM, 2KB SRAM, 100-pin TQFP, Industrial Grade (-40°C to 85°C); DatasheetVersion: revD, Jun-2011; PackageVersion: revD, Oct-2010; PackageReference: 100A; PackageDescription: 100-Pin Thin Profile Plastic Quad Flat Pack (TQFP), 14 x 14 x 1.0 mm Body, 0.5 mm Pitch; Code_JEDEC: MS-026-AED; ComponentLink1Description: Manufacturer URL; ComponentLink1URL: http://www.atmel.com/; ComponentLink2Description: ATmega165A/PA/325A/PA/3250A/PA/645A/P/6450A/P Datasheet; ComponentLink2URL: http://www.atmel.com/dyn/resources/prod_documents/doc8285.pdf; ComponentLink3Description: ATmega165A/PA/325A/PA/3250A/PA/645A/P/6450A/P Summary; ComponentLink3URL: http://www.atmel.com/dyn/resources/prod_documents/8285S.pdf
footprint 100A_N (Thin QFP, 100-Leads, Body 14x14mm, Pitch 0.5mm, IPC Medium Density)
footprint 100A_L (Thin QFP, 100-Leads, Body 14x14mm, Pitch 0.5mm, IPC High Density)
footprint 100A_M (Thin QFP, 100-Leads, Body 14x14mm, Pitch 0.5mm, IPC Low Density)
part A pins: 2 PE0 (RXD/PCINT0) (io), 3 PE1 (TXD/PCINT1) (io), 4 PE2 (XCK/AIN0/PCINT2) (io), 5 PE3 (AIN1/PCINT3) (io), 6 PE4 (USCK/SCL/PCINT4) (io), 7 PE5 (DI/SDA/PCINT5) (io), 8 PE6 (DO/PCINT6) (io), 9 PE7 (CLKO/PCINT7) (io), 10 VCC (power), 11 GND (power), 13 PJ0 (PCINT24) (io), 14 PJ1 (PCINT25) (io), 19 PB0 (~{SS}/PCINT8) (io), 20 PB1 (SCK/PCINT9) (io), 21 PB2 (MOSI/PCINT10) (io), 22 PB3 (MISO/PCINT11) (io), 23 PB4 (OC0A/PCINT12) (io), 24 PB5 (OC1A/PCINT13) (io), 25 PB6 (OC1B/PCINT14) (io), 26 PB7 (OC2A/PCINT15) (io), 28 PG3 (T1) (io), 29 PG4 (T0) (io), 30 ~{RESET}/PG5 (io), 31 VCC (power), 32 GND (power), 33 XTAL2 (TOSC2) (out), 34 XTAL1 (TOSC1) (in), 37 PJ2 (PCINT26) (io), 38 PJ3 (PCINT27) (io), 39 PJ4 (PCINT28) (io), 40 PJ5 (PCINT29) (io), 41 PJ6 (PCINT30) (io), 43 PD0 (ICP1) (io), 44 PD1 (INT0) (io), 45 PD2 (io), 46 PD3 (io), 47 PD4 (io), 48 PD5 (io), 49 PD6 (io), 50 PD7 (io), 51 PG0 (io), 52 PG1 (io), 53 PC0 (io), 54 PC1 (io), 55 PC2 (io), 56 PC3 (io), 57 PC4 (io), 58 PC5 (io), 63 PH0 (PCINT16) (io), 64 PH1 (PCINT17) (io), 65 PH2 (PCINT18) (io), 66 PH3 (PCINT19) (io), 68 PC6 (io), 69 PC7 (io), 70 PG2 (io), 71 PA7 (io), 72 PA6 (io), 73 PA5 (io), 74 PA4 (io), 75 PA3 (io), 76 PA2 (io), 77 PA1 (io), 78 PA0 (io), 80 VCC (power), 81 GND (power), 84 PH4 (PCINT20) (io), 85 PH5 (PCINT21) (io), 86 PH6 (PCINT22) (io), 87 PH7 (PCINT23) (io), 90 PF7 (ADC7/TDI) (io), 91 PF6 (ADC6/TDO) (io), 92 PF5 (ADC5/TMS) (io), 93 PF4 (ADC4/TCK) (io), 94 PF3 (ADC3) (io), 95 PF2 (ADC2) (io), 96 PF1 (ADC1) (io), 97 PF0 (ADC0) (io), 98 AREF (power), 99 AGND (power), 100 AVCC (power)
part B pins: 1 DNC, 12 DNC, 15 DNC, 16 DNC, 17 DNC, 18 DNC, 27 DNC, 35 DNC, 36 DNC, 42 DNC, 59 DNC, 60 DNC, 61 DNC, 62 DNC, 67 DNC, 79 DNC, 82 DNC, 83 DNC, 88 DNC, 89 DNC

## ATmega3250A-AUR
designator U?
8-bit AVR Microcontroller, 1.5-5.5V, 32KB Flash, 1KB EEPROM, 2KB SRAM, 100-pin TQFP, Industrial Grade (-40°C to 85°C), Reel; DatasheetVersion: revD, Jun-2011; PackageVersion: revD, Oct-2010; PackageReference: 100A; PackageDescription: 100-Pin Thin Profile Plastic Quad Flat Pack (TQFP), 14 x 14 x 1.0 mm Body, 0.5 mm Pitch; Code_JEDEC: MS-026-AED; ComponentLink1Description: Manufacturer URL; ComponentLink1URL: http://www.atmel.com/; ComponentLink2Description: ATmega165A/PA/325A/PA/3250A/PA/645A/P/6450A/P Datasheet; ComponentLink2URL: http://www.atmel.com/dyn/resources/prod_documents/doc8285.pdf; ComponentLink3Description: ATmega165A/PA/325A/PA/3250A/PA/645A/P/6450A/P Summary; ComponentLink3URL: http://www.atmel.com/dyn/resources/prod_documents/8285S.pdf
footprint 100A_N (Thin QFP, 100-Leads, Body 14x14mm, Pitch 0.5mm, IPC Medium Density)
footprint 100A_L (Thin QFP, 100-Leads, Body 14x14mm, Pitch 0.5mm, IPC High Density)
footprint 100A_M (Thin QFP, 100-Leads, Body 14x14mm, Pitch 0.5mm, IPC Low Density)
part A pins: 2 PE0 (RXD/PCINT0) (io), 3 PE1 (TXD/PCINT1) (io), 4 PE2 (XCK/AIN0/PCINT2) (io), 5 PE3 (AIN1/PCINT3) (io), 6 PE4 (USCK/SCL/PCINT4) (io), 7 PE5 (DI/SDA/PCINT5) (io), 8 PE6 (DO/PCINT6) (io), 9 PE7 (CLKO/PCINT7) (io), 10 VCC (power), 11 GND (power), 13 PJ0 (PCINT24) (io), 14 PJ1 (PCINT25) (io), 19 PB0 (~{SS}/PCINT8) (io), 20 PB1 (SCK/PCINT9) (io), 21 PB2 (MOSI/PCINT10) (io), 22 PB3 (MISO/PCINT11) (io), 23 PB4 (OC0A/PCINT12) (io), 24 PB5 (OC1A/PCINT13) (io), 25 PB6 (OC1B/PCINT14) (io), 26 PB7 (OC2A/PCINT15) (io), 28 PG3 (T1) (io), 29 PG4 (T0) (io), 30 ~{RESET}/PG5 (io), 31 VCC (power), 32 GND (power), 33 XTAL2 (TOSC2) (out), 34 XTAL1 (TOSC1) (in), 37 PJ2 (PCINT26) (io), 38 PJ3 (PCINT27) (io), 39 PJ4 (PCINT28) (io), 40 PJ5 (PCINT29) (io), 41 PJ6 (PCINT30) (io), 43 PD0 (ICP1) (io), 44 PD1 (INT0) (io), 45 PD2 (io), 46 PD3 (io), 47 PD4 (io), 48 PD5 (io), 49 PD6 (io), 50 PD7 (io), 51 PG0 (io), 52 PG1 (io), 53 PC0 (io), 54 PC1 (io), 55 PC2 (io), 56 PC3 (io), 57 PC4 (io), 58 PC5 (io), 63 PH0 (PCINT16) (io), 64 PH1 (PCINT17) (io), 65 PH2 (PCINT18) (io), 66 PH3 (PCINT19) (io), 68 PC6 (io), 69 PC7 (io), 70 PG2 (io), 71 PA7 (io), 72 PA6 (io), 73 PA5 (io), 74 PA4 (io), 75 PA3 (io), 76 PA2 (io), 77 PA1 (io), 78 PA0 (io), 80 VCC (power), 81 GND (power), 84 PH4 (PCINT20) (io), 85 PH5 (PCINT21) (io), 86 PH6 (PCINT22) (io), 87 PH7 (PCINT23) (io), 90 PF7 (ADC7/TDI) (io), 91 PF6 (ADC6/TDO) (io), 92 PF5 (ADC5/TMS) (io), 93 PF4 (ADC4/TCK) (io), 94 PF3 (ADC3) (io), 95 PF2 (ADC2) (io), 96 PF1 (ADC1) (io), 97 PF0 (ADC0) (io), 98 AREF (power), 99 AGND (power), 100 AVCC (power)
part B pins: 1 DNC, 12 DNC, 15 DNC, 16 DNC, 17 DNC, 18 DNC, 27 DNC, 35 DNC, 36 DNC, 42 DNC, 59 DNC, 60 DNC, 61 DNC, 62 DNC, 67 DNC, 79 DNC, 82 DNC, 83 DNC, 88 DNC, 89 DNC

## ATmega3250P-20AU
designator U?
8-bit AVR Microcontroller, 2.7-5.5V, 32KB Flash, 1KB EEPROM, 2KB SRAM, 100-pin TQFP, Industrial Grade (-40°C to 85°C); DatasheetVersion: revF, Jul-2009; PackageVersion: revD, Oct-2010; PackageReference: 100A; PackageDescription: 100-Pin Thin Profile Plastic Quad Flat Pack (TQFP), 14 x 14 x 1.0 mm Body, 0.5 mm Pitch; Code_JEDEC: MS-026-AED; ComponentLink1Description: Manufacturer URL; ComponentLink1URL: http://www.atmel.com/; ComponentLink2Description: ATmega325P/3250P Datasheet; ComponentLink2URL: http://www.atmel.com/dyn/resources/prod_documents/doc8023.pdf; ComponentLink3Description: ATmega325P/3250P Summary; ComponentLink3URL: http://www.atmel.com/dyn/resources/prod_documents/8023S.pdf
footprint 100A_N (Thin QFP, 100-Leads, Body 14x14mm, Pitch 0.5mm, IPC Medium Density)
footprint 100A_L (Thin QFP, 100-Leads, Body 14x14mm, Pitch 0.5mm, IPC High Density)
footprint 100A_M (Thin QFP, 100-Leads, Body 14x14mm, Pitch 0.5mm, IPC Low Density)
part A pins: 2 PE0 (RXD/PCINT0) (io), 3 PE1 (TXD/PCINT1) (io), 4 PE2 (XCK/AIN0/PCINT2) (io), 5 PE3 (AIN1/PCINT3) (io), 6 PE4 (USCK/SCL/PCINT4) (io), 7 PE5 (DI/SDA/PCINT5) (io), 8 PE6 (DO/PCINT6) (io), 9 PE7 (CLKO/PCINT7) (io), 10 VCC (power), 11 GND (power), 13 PJ0 (PCINT24) (io), 14 PJ1 (PCINT25) (io), 19 PB0 (~{SS}/PCINT8) (io), 20 PB1 (SCK/PCINT9) (io), 21 PB2 (MOSI/PCINT10) (io), 22 PB3 (MISO/PCINT11) (io), 23 PB4 (OC0A/PCINT12) (io), 24 PB5 (OC1A/PCINT13) (io), 25 PB6 (OC1B/PCINT14) (io), 26 PB7 (OC2A/PCINT15) (io), 28 PG3 (T1) (io), 29 PG4 (T0) (io), 30 ~{RESET}/PG5 (io), 31 VCC (power), 32 GND (power), 33 XTAL2 (TOSC2) (out), 34 XTAL1 (TOSC1) (in), 37 PJ2 (PCINT26) (io), 38 PJ3 (PCINT27) (io), 39 PJ4 (PCINT28) (io), 40 PJ5 (PCINT29) (io), 41 PJ6 (PCINT30) (io), 43 PD0 (ICP1) (io), 44 PD1 (INT0) (io), 45 PD2 (io), 46 PD3 (io), 47 PD4 (io), 48 PD5 (io), 49 PD6 (io), 50 PD7 (io), 51 PG0 (io), 52 PG1 (io), 53 PC0 (io), 54 PC1 (io), 55 PC2 (io), 56 PC3 (io), 57 PC4 (io), 58 PC5 (io), 63 PH0 (PCINT16) (io), 64 PH1 (PCINT17) (io), 65 PH2 (PCINT18) (io), 66 PH3 (PCINT19) (io), 68 PC6 (io), 69 PC7 (io), 70 PG2 (io), 71 PA7 (io), 72 PA6 (io), 73 PA5 (io), 74 PA4 (io), 75 PA3 (io), 76 PA2 (io), 77 PA1 (io), 78 PA0 (io), 80 VCC (power), 81 GND (power), 84 PH4 (PCINT20) (io), 85 PH5 (PCINT21) (io), 86 PH6 (PCINT22) (io), 87 PH7 (PCINT23) (io), 90 PF7 (ADC7/TDI) (io), 91 PF6 (ADC6/TDO) (io), 92 PF5 (ADC5/TMS) (io), 93 PF4 (ADC4/TCK) (io), 94 PF3 (ADC3) (io), 95 PF2 (ADC2) (io), 96 PF1 (ADC1) (io), 97 PF0 (ADC0) (io), 98 AREF (power), 99 AGND (power), 100 AVCC (power)
part B pins: 1 DNC, 12 DNC, 15 DNC, 16 DNC, 17 DNC, 18 DNC, 27 DNC, 35 DNC, 36 DNC, 42 DNC, 59 DNC, 60 DNC, 61 DNC, 62 DNC, 67 DNC, 79 DNC, 82 DNC, 83 DNC, 88 DNC, 89 DNC

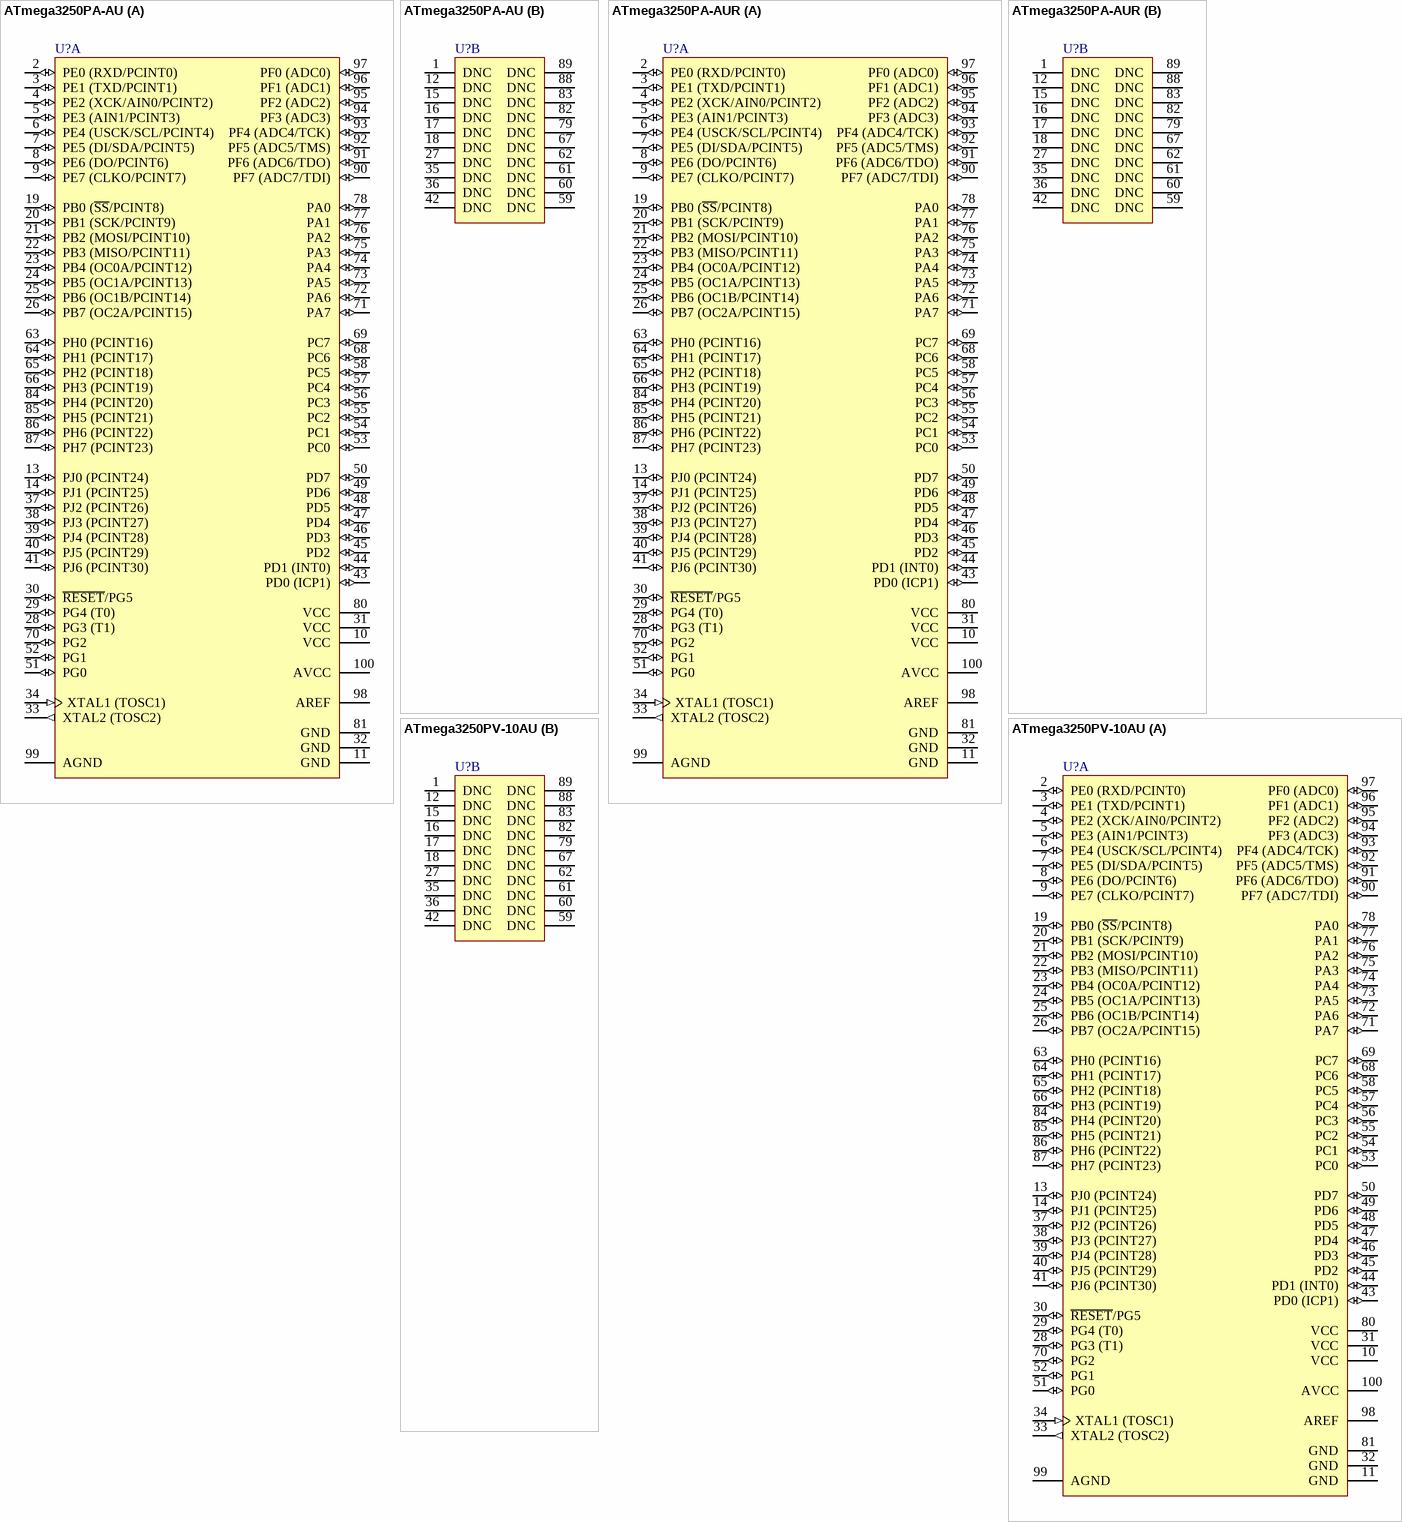
[diagram p70: symbols ATmega3250PA-AU to ATmega3250PV-10AU]

## ATmega3250PA-AU
designator U?
8-bit AVR Microcontroller, 1.5-5.5V, 32KB Flash, 1KB EEPROM, 2KB SRAM, 100-pin TQFP, Industrial Grade (-40°C to 85°C); DatasheetVersion: revD, Jun-2011; PackageVersion: revD, Oct-2010; PackageReference: 100A; PackageDescription: 100-Pin Thin Profile Plastic Quad Flat Pack (TQFP), 14 x 14 x 1.0 mm Body, 0.5 mm Pitch; Code_JEDEC: MS-026-AED; ComponentLink1Description: Manufacturer URL; ComponentLink1URL: http://www.atmel.com/; ComponentLink2Description: ATmega165A/PA/325A/PA/3250A/PA/645A/P/6450A/P Datasheet; ComponentLink2URL: http://www.atmel.com/dyn/resources/prod_documents/doc8285.pdf; ComponentLink3Description: ATmega165A/PA/325A/PA/3250A/PA/645A/P/6450A/P Summary; ComponentLink3URL: http://www.atmel.com/dyn/resources/prod_documents/8285S.pdf
footprint 100A_N (Thin QFP, 100-Leads, Body 14x14mm, Pitch 0.5mm, IPC Medium Density)
footprint 100A_L (Thin QFP, 100-Leads, Body 14x14mm, Pitch 0.5mm, IPC High Density)
footprint 100A_M (Thin QFP, 100-Leads, Body 14x14mm, Pitch 0.5mm, IPC Low Density)
part A pins: 2 PE0 (RXD/PCINT0) (io), 3 PE1 (TXD/PCINT1) (io), 4 PE2 (XCK/AIN0/PCINT2) (io), 5 PE3 (AIN1/PCINT3) (io), 6 PE4 (USCK/SCL/PCINT4) (io), 7 PE5 (DI/SDA/PCINT5) (io), 8 PE6 (DO/PCINT6) (io), 9 PE7 (CLKO/PCINT7) (io), 10 VCC (power), 11 GND (power), 13 PJ0 (PCINT24) (io), 14 PJ1 (PCINT25) (io), 19 PB0 (~{SS}/PCINT8) (io), 20 PB1 (SCK/PCINT9) (io), 21 PB2 (MOSI/PCINT10) (io), 22 PB3 (MISO/PCINT11) (io), 23 PB4 (OC0A/PCINT12) (io), 24 PB5 (OC1A/PCINT13) (io), 25 PB6 (OC1B/PCINT14) (io), 26 PB7 (OC2A/PCINT15) (io), 28 PG3 (T1) (io), 29 PG4 (T0) (io), 30 ~{RESET}/PG5 (io), 31 VCC (power), 32 GND (power), 33 XTAL2 (TOSC2) (out), 34 XTAL1 (TOSC1) (in), 37 PJ2 (PCINT26) (io), 38 PJ3 (PCINT27) (io), 39 PJ4 (PCINT28) (io), 40 PJ5 (PCINT29) (io), 41 PJ6 (PCINT30) (io), 43 PD0 (ICP1) (io), 44 PD1 (INT0) (io), 45 PD2 (io), 46 PD3 (io), 47 PD4 (io), 48 PD5 (io), 49 PD6 (io), 50 PD7 (io), 51 PG0 (io), 52 PG1 (io), 53 PC0 (io), 54 PC1 (io), 55 PC2 (io), 56 PC3 (io), 57 PC4 (io), 58 PC5 (io), 63 PH0 (PCINT16) (io), 64 PH1 (PCINT17) (io), 65 PH2 (PCINT18) (io), 66 PH3 (PCINT19) (io), 68 PC6 (io), 69 PC7 (io), 70 PG2 (io), 71 PA7 (io), 72 PA6 (io), 73 PA5 (io), 74 PA4 (io), 75 PA3 (io), 76 PA2 (io), 77 PA1 (io), 78 PA0 (io), 80 VCC (power), 81 GND (power), 84 PH4 (PCINT20) (io), 85 PH5 (PCINT21) (io), 86 PH6 (PCINT22) (io), 87 PH7 (PCINT23) (io), 90 PF7 (ADC7/TDI) (io), 91 PF6 (ADC6/TDO) (io), 92 PF5 (ADC5/TMS) (io), 93 PF4 (ADC4/TCK) (io), 94 PF3 (ADC3) (io), 95 PF2 (ADC2) (io), 96 PF1 (ADC1) (io), 97 PF0 (ADC0) (io), 98 AREF (power), 99 AGND (power), 100 AVCC (power)
part B pins: 1 DNC, 12 DNC, 15 DNC, 16 DNC, 17 DNC, 18 DNC, 27 DNC, 35 DNC, 36 DNC, 42 DNC, 59 DNC, 60 DNC, 61 DNC, 62 DNC, 67 DNC, 79 DNC, 82 DNC, 83 DNC, 88 DNC, 89 DNC

## ATmega3250PA-AUR
designator U?
8-bit AVR Microcontroller, 1.5-5.5V, 32KB Flash, 1KB EEPROM, 2KB SRAM, 100-pin TQFP, Industrial Grade (-40°C to 85°C), Reel; DatasheetVersion: revD, Jun-2011; PackageVersion: revD, Oct-2010; PackageReference: 100A; PackageDescription: 100-Pin Thin Profile Plastic Quad Flat Pack (TQFP), 14 x 14 x 1.0 mm Body, 0.5 mm Pitch; Code_JEDEC: MS-026-AED; ComponentLink1Description: Manufacturer URL; ComponentLink1URL: http://www.atmel.com/; ComponentLink2Description: ATmega165A/PA/325A/PA/3250A/PA/645A/P/6450A/P Datasheet; ComponentLink2URL: http://www.atmel.com/dyn/resources/prod_documents/doc8285.pdf; ComponentLink3Description: ATmega165A/PA/325A/PA/3250A/PA/645A/P/6450A/P Summary; ComponentLink3URL: http://www.atmel.com/dyn/resources/prod_documents/8285S.pdf
footprint 100A_N (Thin QFP, 100-Leads, Body 14x14mm, Pitch 0.5mm, IPC Medium Density)
footprint 100A_L (Thin QFP, 100-Leads, Body 14x14mm, Pitch 0.5mm, IPC High Density)
footprint 100A_M (Thin QFP, 100-Leads, Body 14x14mm, Pitch 0.5mm, IPC Low Density)
part A pins: 2 PE0 (RXD/PCINT0) (io), 3 PE1 (TXD/PCINT1) (io), 4 PE2 (XCK/AIN0/PCINT2) (io), 5 PE3 (AIN1/PCINT3) (io), 6 PE4 (USCK/SCL/PCINT4) (io), 7 PE5 (DI/SDA/PCINT5) (io), 8 PE6 (DO/PCINT6) (io), 9 PE7 (CLKO/PCINT7) (io), 10 VCC (power), 11 GND (power), 13 PJ0 (PCINT24) (io), 14 PJ1 (PCINT25) (io), 19 PB0 (~{SS}/PCINT8) (io), 20 PB1 (SCK/PCINT9) (io), 21 PB2 (MOSI/PCINT10) (io), 22 PB3 (MISO/PCINT11) (io), 23 PB4 (OC0A/PCINT12) (io), 24 PB5 (OC1A/PCINT13) (io), 25 PB6 (OC1B/PCINT14) (io), 26 PB7 (OC2A/PCINT15) (io), 28 PG3 (T1) (io), 29 PG4 (T0) (io), 30 ~{RESET}/PG5 (io), 31 VCC (power), 32 GND (power), 33 XTAL2 (TOSC2) (out), 34 XTAL1 (TOSC1) (in), 37 PJ2 (PCINT26) (io), 38 PJ3 (PCINT27) (io), 39 PJ4 (PCINT28) (io), 40 PJ5 (PCINT29) (io), 41 PJ6 (PCINT30) (io), 43 PD0 (ICP1) (io), 44 PD1 (INT0) (io), 45 PD2 (io), 46 PD3 (io), 47 PD4 (io), 48 PD5 (io), 49 PD6 (io), 50 PD7 (io), 51 PG0 (io), 52 PG1 (io), 53 PC0 (io), 54 PC1 (io), 55 PC2 (io), 56 PC3 (io), 57 PC4 (io), 58 PC5 (io), 63 PH0 (PCINT16) (io), 64 PH1 (PCINT17) (io), 65 PH2 (PCINT18) (io), 66 PH3 (PCINT19) (io), 68 PC6 (io), 69 PC7 (io), 70 PG2 (io), 71 PA7 (io), 72 PA6 (io), 73 PA5 (io), 74 PA4 (io), 75 PA3 (io), 76 PA2 (io), 77 PA1 (io), 78 PA0 (io), 80 VCC (power), 81 GND (power), 84 PH4 (PCINT20) (io), 85 PH5 (PCINT21) (io), 86 PH6 (PCINT22) (io), 87 PH7 (PCINT23) (io), 90 PF7 (ADC7/TDI) (io), 91 PF6 (ADC6/TDO) (io), 92 PF5 (ADC5/TMS) (io), 93 PF4 (ADC4/TCK) (io), 94 PF3 (ADC3) (io), 95 PF2 (ADC2) (io), 96 PF1 (ADC1) (io), 97 PF0 (ADC0) (io), 98 AREF (power), 99 AGND (power), 100 AVCC (power)
part B pins: 1 DNC, 12 DNC, 15 DNC, 16 DNC, 17 DNC, 18 DNC, 27 DNC, 35 DNC, 36 DNC, 42 DNC, 59 DNC, 60 DNC, 61 DNC, 62 DNC, 67 DNC, 79 DNC, 82 DNC, 83 DNC, 88 DNC, 89 DNC

## ATmega3250PV-10AU
designator U?
8-bit AVR Microcontroller, 1.8-5.5V, 32KB Flash, 1KB EEPROM, 2KB SRAM, 100-pin TQFP, Industrial Grade (-40°C to 85°C); DatasheetVersion: revF, Jul-2009; PackageVersion: revD, Oct-2010; PackageReference: 100A; PackageDescription: 100-Pin Thin Profile Plastic Quad Flat Pack (TQFP), 14 x 14 x 1.0 mm Body, 0.5 mm Pitch; Code_JEDEC: MS-026-AED; ComponentLink1Description: Manufacturer URL; ComponentLink1URL: http://www.atmel.com/; ComponentLink2Description: ATmega325P/3250P Datasheet; ComponentLink2URL: http://www.atmel.com/dyn/resources/prod_documents/doc8023.pdf; ComponentLink3Description: ATmega325P/3250P Summary; ComponentLink3URL: http://www.atmel.com/dyn/resources/prod_documents/8023S.pdf
footprint 100A_N (Thin QFP, 100-Leads, Body 14x14mm, Pitch 0.5mm, IPC Medium Density)
footprint 100A_L (Thin QFP, 100-Leads, Body 14x14mm, Pitch 0.5mm, IPC High Density)
footprint 100A_M (Thin QFP, 100-Leads, Body 14x14mm, Pitch 0.5mm, IPC Low Density)
part A pins: 2 PE0 (RXD/PCINT0) (io), 3 PE1 (TXD/PCINT1) (io), 4 PE2 (XCK/AIN0/PCINT2) (io), 5 PE3 (AIN1/PCINT3) (io), 6 PE4 (USCK/SCL/PCINT4) (io), 7 PE5 (DI/SDA/PCINT5) (io), 8 PE6 (DO/PCINT6) (io), 9 PE7 (CLKO/PCINT7) (io), 10 VCC (power), 11 GND (power), 13 PJ0 (PCINT24) (io), 14 PJ1 (PCINT25) (io), 19 PB0 (~{SS}/PCINT8) (io), 20 PB1 (SCK/PCINT9) (io), 21 PB2 (MOSI/PCINT10) (io), 22 PB3 (MISO/PCINT11) (io), 23 PB4 (OC0A/PCINT12) (io), 24 PB5 (OC1A/PCINT13) (io), 25 PB6 (OC1B/PCINT14) (io), 26 PB7 (OC2A/PCINT15) (io), 28 PG3 (T1) (io), 29 PG4 (T0) (io), 30 ~{RESET}/PG5 (io), 31 VCC (power), 32 GND (power), 33 XTAL2 (TOSC2) (out), 34 XTAL1 (TOSC1) (in), 37 PJ2 (PCINT26) (io), 38 PJ3 (PCINT27) (io), 39 PJ4 (PCINT28) (io), 40 PJ5 (PCINT29) (io), 41 PJ6 (PCINT30) (io), 43 PD0 (ICP1) (io), 44 PD1 (INT0) (io), 45 PD2 (io), 46 PD3 (io), 47 PD4 (io), 48 PD5 (io), 49 PD6 (io), 50 PD7 (io), 51 PG0 (io), 52 PG1 (io), 53 PC0 (io), 54 PC1 (io), 55 PC2 (io), 56 PC3 (io), 57 PC4 (io), 58 PC5 (io), 63 PH0 (PCINT16) (io), 64 PH1 (PCINT17) (io), 65 PH2 (PCINT18) (io), 66 PH3 (PCINT19) (io), 68 PC6 (io), 69 PC7 (io), 70 PG2 (io), 71 PA7 (io), 72 PA6 (io), 73 PA5 (io), 74 PA4 (io), 75 PA3 (io), 76 PA2 (io), 77 PA1 (io), 78 PA0 (io), 80 VCC (power), 81 GND (power), 84 PH4 (PCINT20) (io), 85 PH5 (PCINT21) (io), 86 PH6 (PCINT22) (io), 87 PH7 (PCINT23) (io), 90 PF7 (ADC7/TDI) (io), 91 PF6 (ADC6/TDO) (io), 92 PF5 (ADC5/TMS) (io), 93 PF4 (ADC4/TCK) (io), 94 PF3 (ADC3) (io), 95 PF2 (ADC2) (io), 96 PF1 (ADC1) (io), 97 PF0 (ADC0) (io), 98 AREF (power), 99 AGND (power), 100 AVCC (power)
part B pins: 1 DNC, 12 DNC, 15 DNC, 16 DNC, 17 DNC, 18 DNC, 27 DNC, 35 DNC, 36 DNC, 42 DNC, 59 DNC, 60 DNC, 61 DNC, 62 DNC, 67 DNC, 79 DNC, 82 DNC, 83 DNC, 88 DNC, 89 DNC

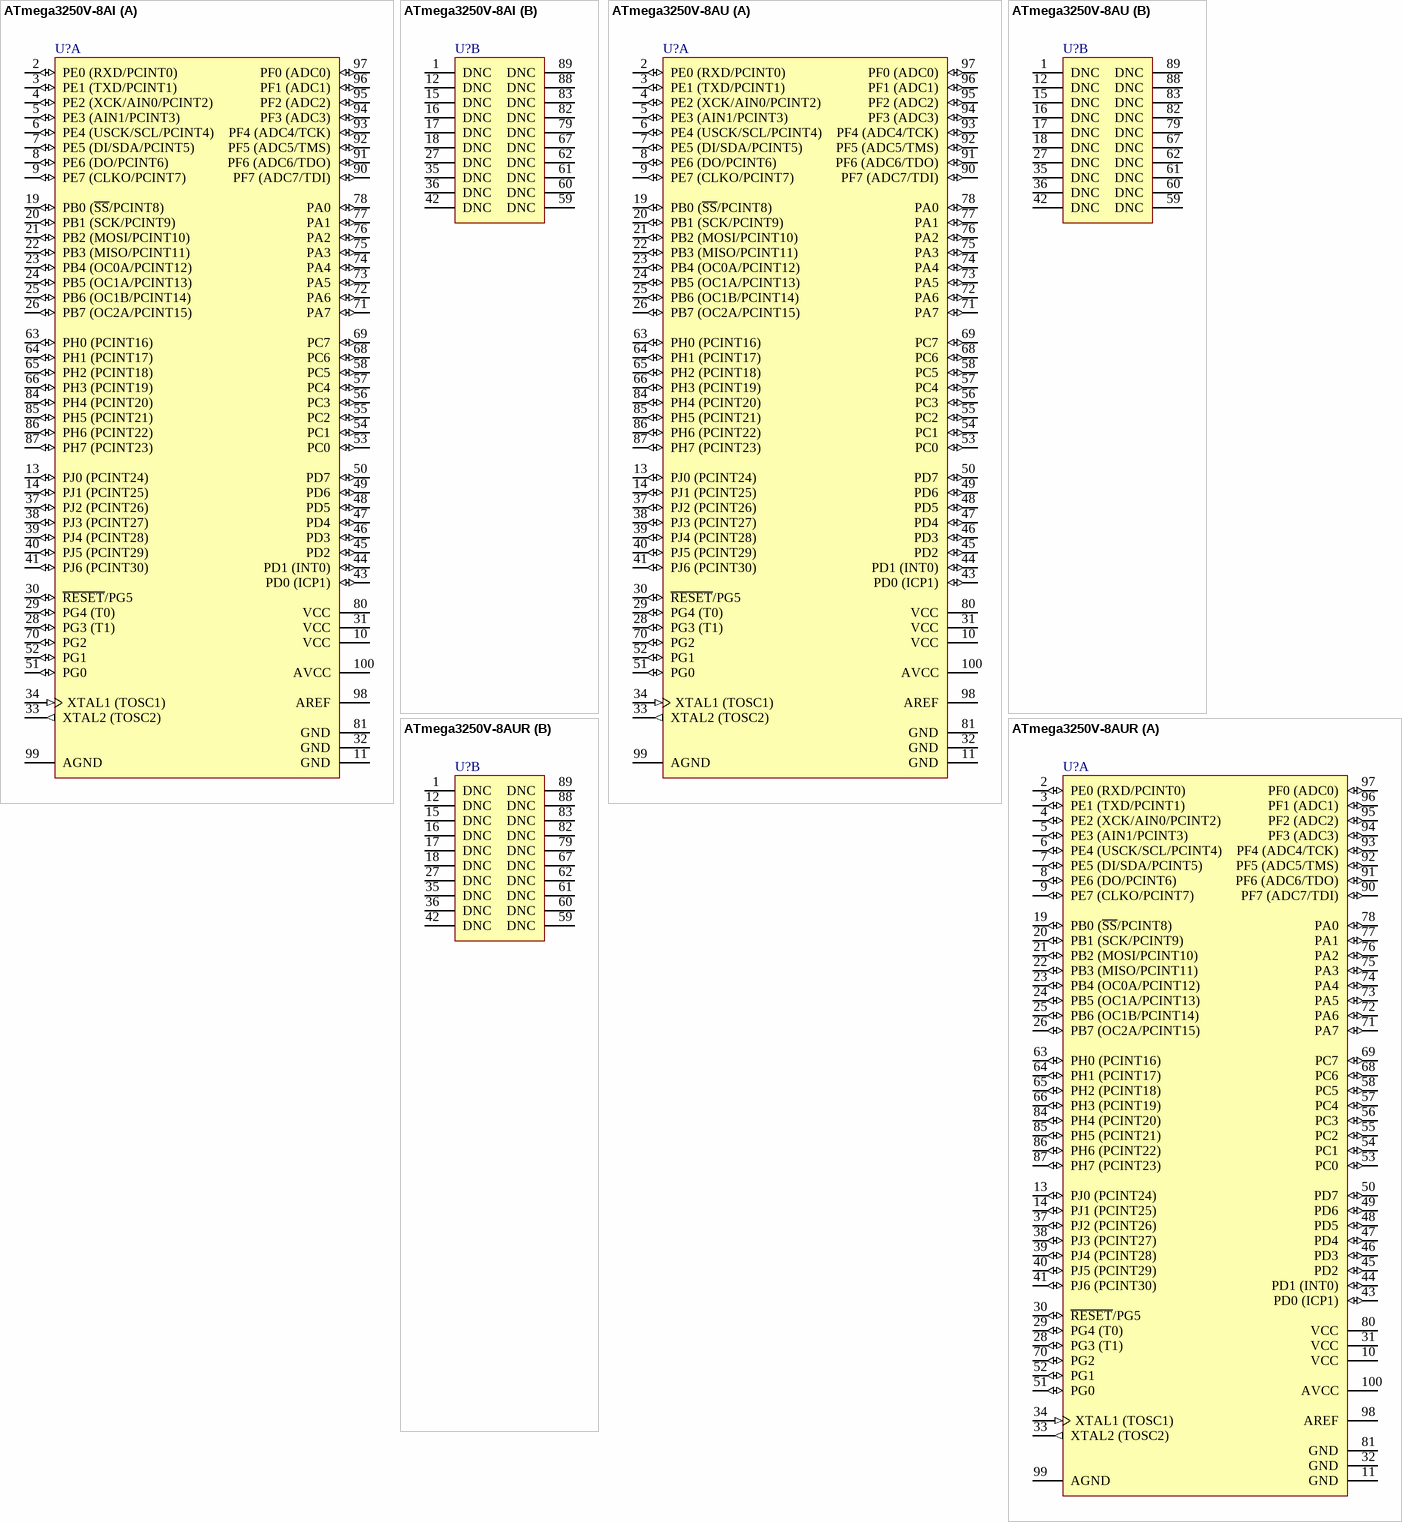
[diagram p71: symbols ATmega3250V-8AI to ATmega3250V-8AUR]

## ATmega3250V-8AI
designator U?
8-bit AVR Microcontroller, 1.8-5.5V, 32KB Flash, 1KB EEPROM, 2KB SRAM, 100-pin TQFP, Industrial Grade (-40°C to 85°C); DatasheetVersion: revL, Aug-2007; PackageVersion: revD, Oct-2010; PackageReference: 100A; PackageDescription: 100-Pin Thin Profile Plastic Quad Flat Pack (TQFP), 14 x 14 x 1.0 mm Body, 0.5 mm Pitch; Code_JEDEC: MS-026-AED; ComponentLink1Description: Manufacturer URL; ComponentLink1URL: http://www.atmel.com/
footprint 100A_N (Thin QFP, 100-Leads, Body 14x14mm, Pitch 0.5mm, IPC Medium Density)
footprint 100A_L (Thin QFP, 100-Leads, Body 14x14mm, Pitch 0.5mm, IPC High Density)
footprint 100A_M (Thin QFP, 100-Leads, Body 14x14mm, Pitch 0.5mm, IPC Low Density)
part A pins: 2 PE0 (RXD/PCINT0) (io), 3 PE1 (TXD/PCINT1) (io), 4 PE2 (XCK/AIN0/PCINT2) (io), 5 PE3 (AIN1/PCINT3) (io), 6 PE4 (USCK/SCL/PCINT4) (io), 7 PE5 (DI/SDA/PCINT5) (io), 8 PE6 (DO/PCINT6) (io), 9 PE7 (CLKO/PCINT7) (io), 10 VCC (power), 11 GND (power), 13 PJ0 (PCINT24) (io), 14 PJ1 (PCINT25) (io), 19 PB0 (~{SS}/PCINT8) (io), 20 PB1 (SCK/PCINT9) (io), 21 PB2 (MOSI/PCINT10) (io), 22 PB3 (MISO/PCINT11) (io), 23 PB4 (OC0A/PCINT12) (io), 24 PB5 (OC1A/PCINT13) (io), 25 PB6 (OC1B/PCINT14) (io), 26 PB7 (OC2A/PCINT15) (io), 28 PG3 (T1) (io), 29 PG4 (T0) (io), 30 ~{RESET}/PG5 (io), 31 VCC (power), 32 GND (power), 33 XTAL2 (TOSC2) (out), 34 XTAL1 (TOSC1) (in), 37 PJ2 (PCINT26) (io), 38 PJ3 (PCINT27) (io), 39 PJ4 (PCINT28) (io), 40 PJ5 (PCINT29) (io), 41 PJ6 (PCINT30) (io), 43 PD0 (ICP1) (io), 44 PD1 (INT0) (io), 45 PD2 (io), 46 PD3 (io), 47 PD4 (io), 48 PD5 (io), 49 PD6 (io), 50 PD7 (io), 51 PG0 (io), 52 PG1 (io), 53 PC0 (io), 54 PC1 (io), 55 PC2 (io), 56 PC3 (io), 57 PC4 (io), 58 PC5 (io), 63 PH0 (PCINT16) (io), 64 PH1 (PCINT17) (io), 65 PH2 (PCINT18) (io), 66 PH3 (PCINT19) (io), 68 PC6 (io), 69 PC7 (io), 70 PG2 (io), 71 PA7 (io), 72 PA6 (io), 73 PA5 (io), 74 PA4 (io), 75 PA3 (io), 76 PA2 (io), 77 PA1 (io), 78 PA0 (io), 80 VCC (power), 81 GND (power), 84 PH4 (PCINT20) (io), 85 PH5 (PCINT21) (io), 86 PH6 (PCINT22) (io), 87 PH7 (PCINT23) (io), 90 PF7 (ADC7/TDI) (io), 91 PF6 (ADC6/TDO) (io), 92 PF5 (ADC5/TMS) (io), 93 PF4 (ADC4/TCK) (io), 94 PF3 (ADC3) (io), 95 PF2 (ADC2) (io), 96 PF1 (ADC1) (io), 97 PF0 (ADC0) (io), 98 AREF (power), 99 AGND (power), 100 AVCC (power)
part B pins: 1 DNC, 12 DNC, 15 DNC, 16 DNC, 17 DNC, 18 DNC, 27 DNC, 35 DNC, 36 DNC, 42 DNC, 59 DNC, 60 DNC, 61 DNC, 62 DNC, 67 DNC, 79 DNC, 82 DNC, 83 DNC, 88 DNC, 89 DNC

## ATmega3250V-8AU
designator U?
8-bit AVR Microcontroller, 1.8-5.5V, 32KB Flash, 1KB EEPROM, 2KB SRAM, 100-pin TQFP, Industrial Grade (-40°C to 85°C); DatasheetVersion: revN, May-2011; PackageVersion: revD, Oct-2010; PackageReference: 100A; PackageDescription: 100-Pin Thin Profile Plastic Quad Flat Pack (TQFP), 14 x 14 x 1.0 mm Body, 0.5 mm Pitch; Code_JEDEC: MS-026-AED; ComponentLink1Description: Manufacturer URL; ComponentLink1URL: http://www.atmel.com/; ComponentLink2Description: ATmega325/3250/645/6450 Datasheet; ComponentLink2URL: http://www.atmel.com/dyn/resources/prod_documents/doc2570.pdf; ComponentLink3Description: ATmega325/3250/645/6540 Summary; ComponentLink3URL: http://www.atmel.com/dyn/resources/prod_documents/2570S.pdf
footprint 100A_N (Thin QFP, 100-Leads, Body 14x14mm, Pitch 0.5mm, IPC Medium Density)
footprint 100A_L (Thin QFP, 100-Leads, Body 14x14mm, Pitch 0.5mm, IPC High Density)
footprint 100A_M (Thin QFP, 100-Leads, Body 14x14mm, Pitch 0.5mm, IPC Low Density)
part A pins: 2 PE0 (RXD/PCINT0) (io), 3 PE1 (TXD/PCINT1) (io), 4 PE2 (XCK/AIN0/PCINT2) (io), 5 PE3 (AIN1/PCINT3) (io), 6 PE4 (USCK/SCL/PCINT4) (io), 7 PE5 (DI/SDA/PCINT5) (io), 8 PE6 (DO/PCINT6) (io), 9 PE7 (CLKO/PCINT7) (io), 10 VCC (power), 11 GND (power), 13 PJ0 (PCINT24) (io), 14 PJ1 (PCINT25) (io), 19 PB0 (~{SS}/PCINT8) (io), 20 PB1 (SCK/PCINT9) (io), 21 PB2 (MOSI/PCINT10) (io), 22 PB3 (MISO/PCINT11) (io), 23 PB4 (OC0A/PCINT12) (io), 24 PB5 (OC1A/PCINT13) (io), 25 PB6 (OC1B/PCINT14) (io), 26 PB7 (OC2A/PCINT15) (io), 28 PG3 (T1) (io), 29 PG4 (T0) (io), 30 ~{RESET}/PG5 (io), 31 VCC (power), 32 GND (power), 33 XTAL2 (TOSC2) (out), 34 XTAL1 (TOSC1) (in), 37 PJ2 (PCINT26) (io), 38 PJ3 (PCINT27) (io), 39 PJ4 (PCINT28) (io), 40 PJ5 (PCINT29) (io), 41 PJ6 (PCINT30) (io), 43 PD0 (ICP1) (io), 44 PD1 (INT0) (io), 45 PD2 (io), 46 PD3 (io), 47 PD4 (io), 48 PD5 (io), 49 PD6 (io), 50 PD7 (io), 51 PG0 (io), 52 PG1 (io), 53 PC0 (io), 54 PC1 (io), 55 PC2 (io), 56 PC3 (io), 57 PC4 (io), 58 PC5 (io), 63 PH0 (PCINT16) (io), 64 PH1 (PCINT17) (io), 65 PH2 (PCINT18) (io), 66 PH3 (PCINT19) (io), 68 PC6 (io), 69 PC7 (io), 70 PG2 (io), 71 PA7 (io), 72 PA6 (io), 73 PA5 (io), 74 PA4 (io), 75 PA3 (io), 76 PA2 (io), 77 PA1 (io), 78 PA0 (io), 80 VCC (power), 81 GND (power), 84 PH4 (PCINT20) (io), 85 PH5 (PCINT21) (io), 86 PH6 (PCINT22) (io), 87 PH7 (PCINT23) (io), 90 PF7 (ADC7/TDI) (io), 91 PF6 (ADC6/TDO) (io), 92 PF5 (ADC5/TMS) (io), 93 PF4 (ADC4/TCK) (io), 94 PF3 (ADC3) (io), 95 PF2 (ADC2) (io), 96 PF1 (ADC1) (io), 97 PF0 (ADC0) (io), 98 AREF (power), 99 AGND (power), 100 AVCC (power)
part B pins: 1 DNC, 12 DNC, 15 DNC, 16 DNC, 17 DNC, 18 DNC, 27 DNC, 35 DNC, 36 DNC, 42 DNC, 59 DNC, 60 DNC, 61 DNC, 62 DNC, 67 DNC, 79 DNC, 82 DNC, 83 DNC, 88 DNC, 89 DNC

## ATmega3250V-8AUR
designator U?
8-bit AVR Microcontroller, 1.8-5.5V, 32KB Flash, 1KB EEPROM, 2KB SRAM, 100-pin TQFP, Industrial Grade (-40°C to 85°C), Reel; DatasheetVersion: revN, May-2011; PackageVersion: revD, Oct-2010; PackageReference: 100A; PackageDescription: 100-Pin Thin Profile Plastic Quad Flat Pack (TQFP), 14 x 14 x 1.0 mm Body, 0.5 mm Pitch; Code_JEDEC: MS-026-AED; ComponentLink1Description: Manufacturer URL; ComponentLink1URL: http://www.atmel.com/; ComponentLink2Description: ATmega325/3250/645/6450 Datasheet; ComponentLink2URL: http://www.atmel.com/dyn/resources/prod_documents/doc2570.pdf; ComponentLink3Description: ATmega325/3250/645/6540 Summary; ComponentLink3URL: http://www.atmel.com/dyn/resources/prod_documents/2570S.pdf
footprint 100A_N (Thin QFP, 100-Leads, Body 14x14mm, Pitch 0.5mm, IPC Medium Density)
footprint 100A_L (Thin QFP, 100-Leads, Body 14x14mm, Pitch 0.5mm, IPC High Density)
footprint 100A_M (Thin QFP, 100-Leads, Body 14x14mm, Pitch 0.5mm, IPC Low Density)
part A pins: 2 PE0 (RXD/PCINT0) (io), 3 PE1 (TXD/PCINT1) (io), 4 PE2 (XCK/AIN0/PCINT2) (io), 5 PE3 (AIN1/PCINT3) (io), 6 PE4 (USCK/SCL/PCINT4) (io), 7 PE5 (DI/SDA/PCINT5) (io), 8 PE6 (DO/PCINT6) (io), 9 PE7 (CLKO/PCINT7) (io), 10 VCC (power), 11 GND (power), 13 PJ0 (PCINT24) (io), 14 PJ1 (PCINT25) (io), 19 PB0 (~{SS}/PCINT8) (io), 20 PB1 (SCK/PCINT9) (io), 21 PB2 (MOSI/PCINT10) (io), 22 PB3 (MISO/PCINT11) (io), 23 PB4 (OC0A/PCINT12) (io), 24 PB5 (OC1A/PCINT13) (io), 25 PB6 (OC1B/PCINT14) (io), 26 PB7 (OC2A/PCINT15) (io), 28 PG3 (T1) (io), 29 PG4 (T0) (io), 30 ~{RESET}/PG5 (io), 31 VCC (power), 32 GND (power), 33 XTAL2 (TOSC2) (out), 34 XTAL1 (TOSC1) (in), 37 PJ2 (PCINT26) (io), 38 PJ3 (PCINT27) (io), 39 PJ4 (PCINT28) (io), 40 PJ5 (PCINT29) (io), 41 PJ6 (PCINT30) (io), 43 PD0 (ICP1) (io), 44 PD1 (INT0) (io), 45 PD2 (io), 46 PD3 (io), 47 PD4 (io), 48 PD5 (io), 49 PD6 (io), 50 PD7 (io), 51 PG0 (io), 52 PG1 (io), 53 PC0 (io), 54 PC1 (io), 55 PC2 (io), 56 PC3 (io), 57 PC4 (io), 58 PC5 (io), 63 PH0 (PCINT16) (io), 64 PH1 (PCINT17) (io), 65 PH2 (PCINT18) (io), 66 PH3 (PCINT19) (io), 68 PC6 (io), 69 PC7 (io), 70 PG2 (io), 71 PA7 (io), 72 PA6 (io), 73 PA5 (io), 74 PA4 (io), 75 PA3 (io), 76 PA2 (io), 77 PA1 (io), 78 PA0 (io), 80 VCC (power), 81 GND (power), 84 PH4 (PCINT20) (io), 85 PH5 (PCINT21) (io), 86 PH6 (PCINT22) (io), 87 PH7 (PCINT23) (io), 90 PF7 (ADC7/TDI) (io), 91 PF6 (ADC6/TDO) (io), 92 PF5 (ADC5/TMS) (io), 93 PF4 (ADC4/TCK) (io), 94 PF3 (ADC3) (io), 95 PF2 (ADC2) (io), 96 PF1 (ADC1) (io), 97 PF0 (ADC0) (io), 98 AREF (power), 99 AGND (power), 100 AVCC (power)
part B pins: 1 DNC, 12 DNC, 15 DNC, 16 DNC, 17 DNC, 18 DNC, 27 DNC, 35 DNC, 36 DNC, 42 DNC, 59 DNC, 60 DNC, 61 DNC, 62 DNC, 67 DNC, 79 DNC, 82 DNC, 83 DNC, 88 DNC, 89 DNC

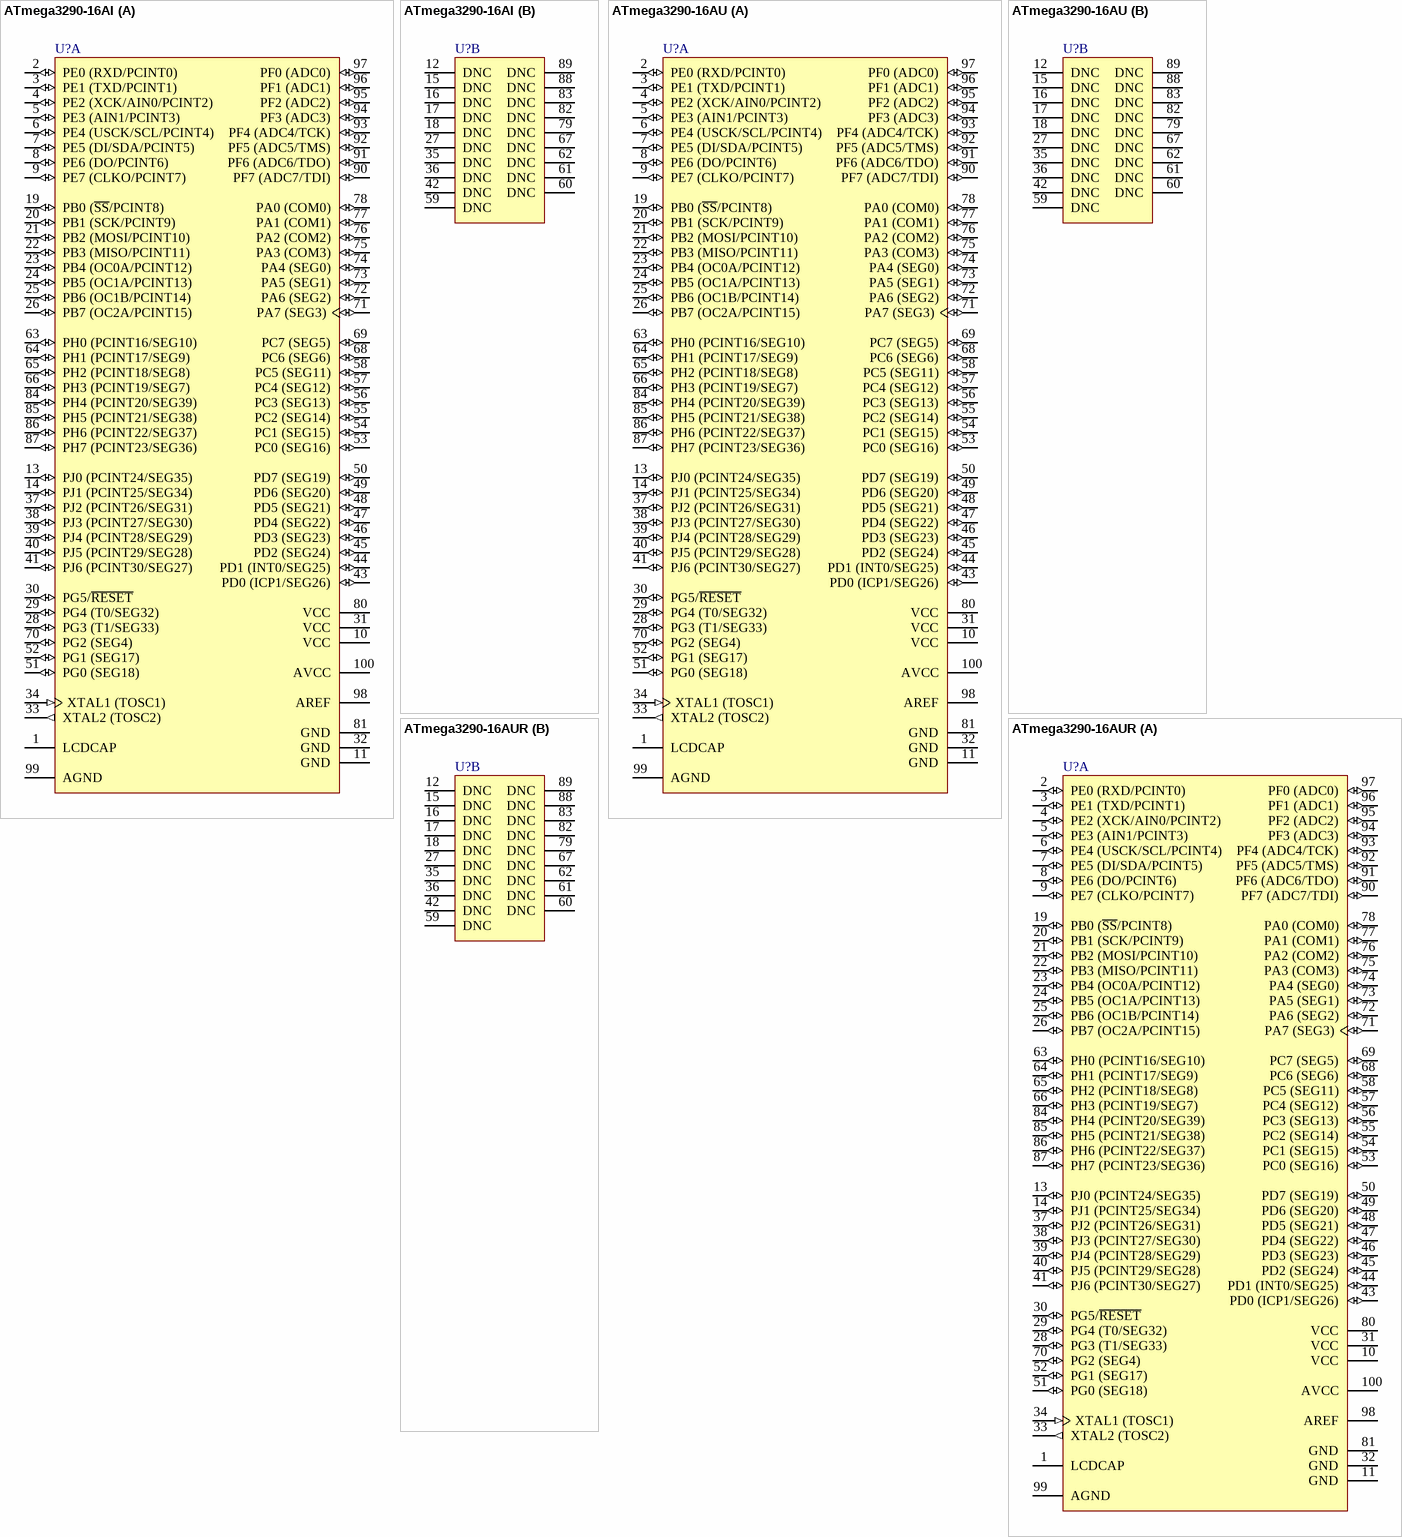
[diagram p72: symbols ATmega3290-16AI to ATmega3290-16AUR]